# Altium schematic symbol library Mark_Library.SchLib: 467 symbols (part 1 of 4)
Pins are listed as number, name and electrical type; pins without a type are passive.

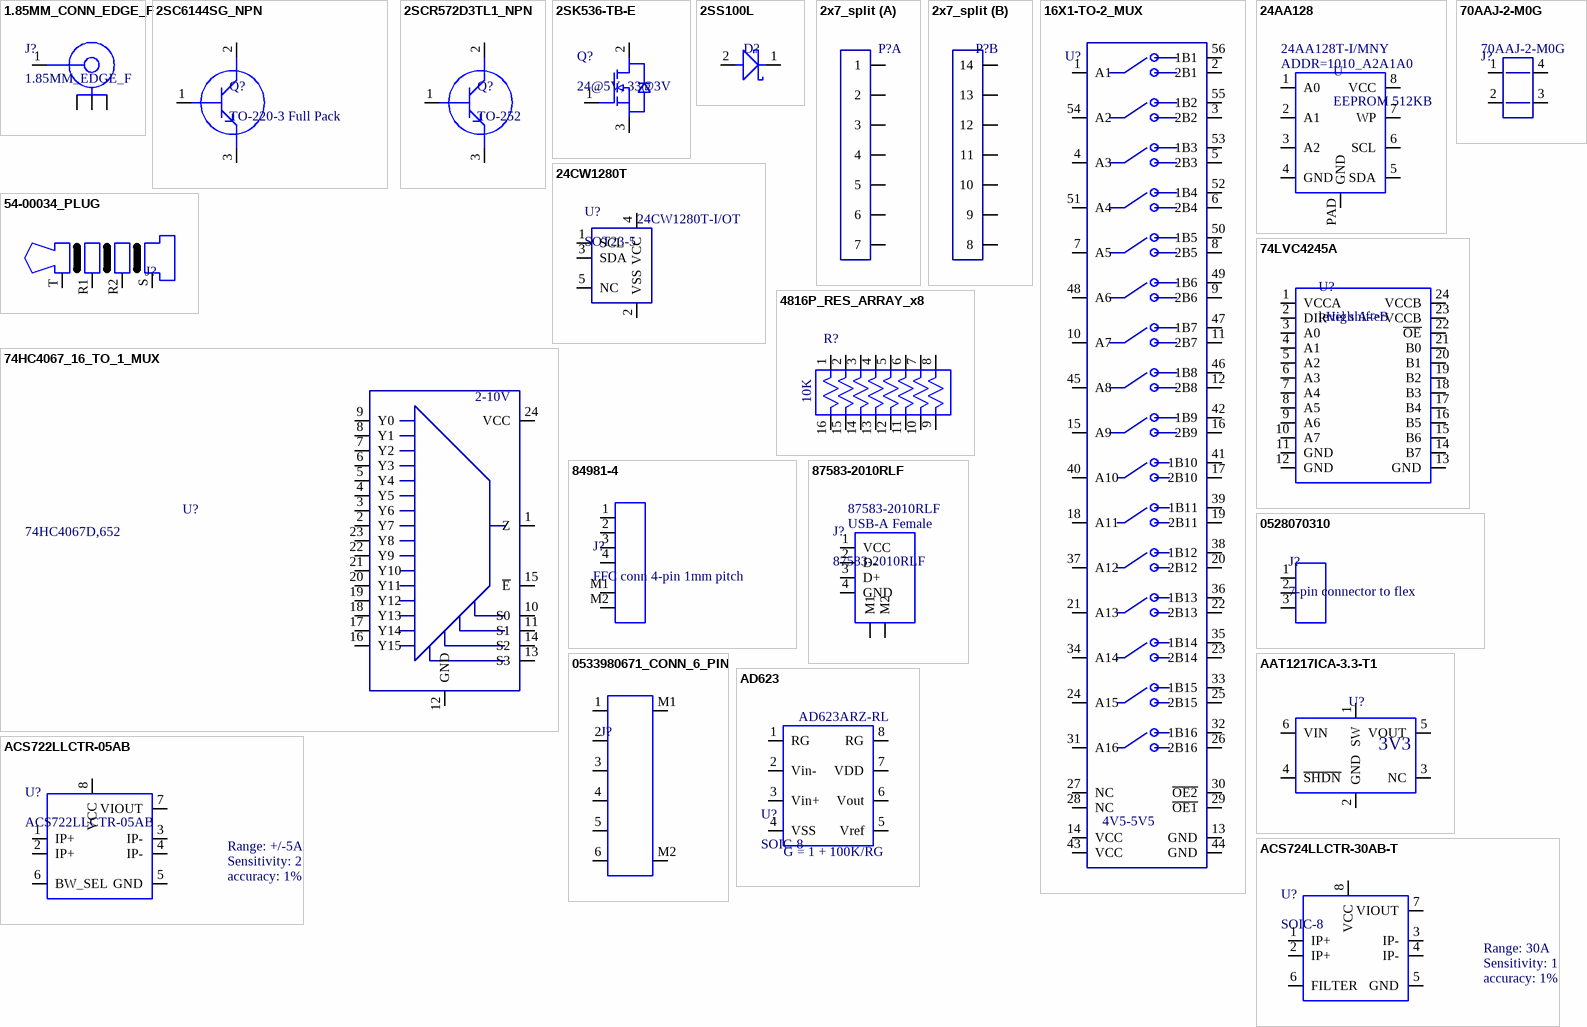
[diagram p0: symbols 1.85MM_CONN_EDGE_F to AD623]

## 1.85MM_CONN_EDGE_F
designator J?, comment 1.85MM_EDGE_F
Manufacturer: Amphenol; MfgPartNumber: 3321-60001; DigikeyPartNumber: 3321-60001-ND
footprint 1.85MM_EDGE (CONN 1.85MM JCK STR 50OHM EDGEMT)
pins: 1, M1, M2, M3

## 2SC6144SG_NPN
designator Q?, comment TO-220-3 Full Pack
Bipolar (BJT) Transistor NPN 50V 10A 330MHz 25W Through Hole TO-220F-3FS; Manufacturer: ON Semiconductor; MfgPartNumber: 2SC6144SG; DigikeyPartNumber: 2SC6144SGOS-ND
footprint TO-220F-3FS (thru-hole BJT)
pins: 1 B, 2 C, 3 E

## 2SCR572D3TL1_NPN
designator Q?, comment TO-252
Bipolar (BJT) Transistor NPN 30V 5A 300MHz 10W Surface Mount TO-252; Manufacturer: Rohm Semiconductor; MfgPartNumber: 2SCR572D3TL1; DigikeyPartNumber: 2SCR572D3TL1DKR-ND
footprint TO-252-3 (3-pin SMD)
pins: 1 B, 2 C, 3 E

## 2SK536-TB-E
designator Q?, comment 24@5V, 33@3V
MOSFET N-CH 50V 0.1A; Manufacturer: ON Semiconductor; MfgPartNumber: 2SK536-TB-E; Ron: 20 ohm @ 10mA,10V; DigikeyPartNumber: 2SK536-TB-EOSCT-ND; Vds max: 50V
footprint SC59-3 (alternative to SOT23-3)
pins: 1 G, 2 D, 3 S

## 2SS100L
designator D?  (value not drawn)
schottky diode; Manufacturer: Rectron; MfgPartNumber: 2SS100L
footprint SOD-123 (for Zener diodes)
pins: 1, 2

## 2x7_split
designator P?  (value not drawn)
powercast package
part A pins: 1, 2, 3, 4, 5, 6, 7
part B pins: 8, 9, 10, 11, 12, 13, 14

## 16X1-TO-2_MUX
designator U?
Assynchronous Multiplexer/Demultiplexer 16 x 1:2 56-TSSOP; MfgPartNumber: SN74CBT16390DGGR; Manufacturer: Texas Instruments; DigikeyPartNumber: 296-1163-1-ND
footprint TSSOP-56 (14 x 8.1mm body)
pins: 1 A1, 2 2B1, 3 2B2, 4 A3, 5 2B3, 6 2B4, 7 A5, 8 2B5, 9 2B6, 10 A7, 11 2B7, 12 2B8, 13 GND, 14 VCC, 15 A9, 16 2B9, 17 2B10, 18 A11, 19 2B11, 20 2B12, 21 A13, 22 2B13, 23 2B14, 24 A15, 25 2B15, 26 2B16, 27 NC, 28 NC, 29 ~{OE1}, 30 ~{OE2}, 31 A16, 32 1B16, 33 1B15, 34 A14, 35 1B14, 36 1B13, 37 A12, 38 1B12, 39 1B11, 40 A10, 41 1B10, 42 1B9, 43 VCC, 44 GND, 45 A8, 46 1B8, 47 1B7, 48 A6, 49 1B6, 50 1B5, 51 A4, 52 1B4, 53 1B3, 54 A2, 55 1B2, 56 1B1
text: 4V5-5V5

## 24AA128
designator U, comment EEPROM 512KB  MfgPartNumber: 24AA128T-I/MNY
EEPROM, 128Kb, I2C; Manufacturer: Microchip; DigikeyPartNumber: 24AA128T-I/MNYCT-ND
footprint UFDFN-8 (UFDFN 8 pins + exposed pad)
pins: 1 A0, 2 A1, 3 A2, 4 GND, 5 SDA, 6 SCL, 7 WP, 8 VCC, PAD GND
text: ADDR=1010_A2A1A0

## 24CW1280T
designator U?, comment SOT23-5  MfgPartNumber: 24CW1280T-I/OT
EEPROM Memory IC 128Kb (16K x 8) I²C 1MHz 450ns SOT-23-5; Manufacturer: Microchip Technology; DigikeyPartNumber: 24CW1280T-I/OTCT-ND
footprint SOT23-5
pins: 1 SCL, 2 VSS, 3 SDA, 4 VCC, 5 NC

## 54-00034_PLUG
designator J?  (value not drawn)
4-pin 3.5mm audio plug; Manufacturer: Tensility International Corp; MfgPartNumber: 54-00035; DigikeyPartNumber: 839-1239-ND
footprint 54-00035_PLUG (3.5mm 4-pin audio plug, male)
footprint 54-00035_PLUG_ROUND (3.5mm 4-pin audio plug, male, ROUND holes)
pins: R1, R2, S, T

## 70AAJ-2-M0G
designator J?
2 Position Spring Compression Contact, Male Connector Surface Mount; Manufacturer: Bourns; DigikeyPartNumber: 70AAJ-2-M0GCT-ND; MfgPartNumber: 70AAJ-2-M0G
footprint 70AAJ-2-M0G (battery contact for Bill's board)
pins: 1, 2, 3, 4

## 74HC4067_16_TO_1_MUX
designator U?, comment MfgPartNumber: 74HC4067D,652  (hidden comment: 16-to-1 mux)
IC MUX/DEMUX 1X16 24SOIC; Manufacturer: Nexperia; DigikeyPartNumber: 1727-3310-ND
footprint SOIC-24 (7.5x15.4mm SMD)
pins: 1 Z, 2 Y7, 3 Y6, 4 Y5, 5 Y4, 6 Y3, 7 Y2, 8 Y1, 9 Y0, 10 S0, 11 S1, 12 GND, 13 S3, 14 S2, 15 ~{E}, 16 Y15, 17 Y14, 18 Y13, 19 Y12, 20 Y11, 21 Y10, 22 Y9, 23 Y8, 24 VCC
text: 2-10V

## 74LVC4245A
designator U?, comment level shifter
IC TRANSCVR TRI-ST DL 24SOIC; MfgPartNumber: 74LVC4245AD,118; Manufacturer: Nexperia
footprint SO-24 (7.5-mm wide SMD)
pins: 1 VCCA, 2 DIR, 3 A0, 4 A1, 5 A2, 6 A3, 7 A4, 8 A5, 9 A6, 10 A7, 11 GND, 12 GND, 13 GND, 14 B7, 15 B6, 16 B5, 17 B4, 18 B3, 19 B2, 20 B1, 21 B0, 22 ~{OE}, 23 VCCB, 24 VCCB
text: High A->B

## 4816P_RES_ARRAY_x8
designator R?  value 10K  (hidden comment: 4816P_RES_ARRAY_x8)
RES ARRAY 8 RES 10K OHM 16SOIC; Manufacturer: Bourns; MfgPartNumber: lookup; DigikeyPartNumber: 4816P-1-103LFCT-ND
footprint SOIC-16
pins: 1, 2, 3, 4, 5, 6, 7, 8, 9, 10, 11, 12, 13, 14, 15, 16

## 84981-4
designator J?, comment FFC conn 4-pin 1mm pitch
footprint 84981-4 FFC conn (CONN FFC FPC TOP 4POS 1.00MM R/A)
pins: 1, 2, 3, 4, M1, M2

## 87583-2010RLF
designator J?
USB A female; Manufacturer: Amphenol; DigikeyPartNumber: 609-5390-1-ND; MfgPartNumber: 87583-2010RLF
footprint 87583-2010RLF (USB-A Female)
pins: 1 VCC, 2 D-, 3 D+, 4 GND, M1, M2
text: USB-A Female

## 0528070310
designator J?, comment 7-pin connector to flex
CONN FPC TOP 3POS 1.00MM R/A; Manufacturer: Molex; MfgPartNumber: 0528070310; DigikeyPartNumber: WM20332-ND
footprint FFC_528070310 (3-pin connector for 0.30mm FFC)
pins: 1, 2, 3

## 0533980671_CONN_6_PIN
designator J?  (value not drawn)
CONN HEADER 6POS 1.25MM VERT SMD; Manufacturer: Molex; DigikeyPartNumber: WM7610CT-ND; MfgPartNumber: 0533980671
footprint 0533980671 (CONN HEADER 6POS 1.25MM VERT SMD)
pins: 1, 2, 3, 4, 5, 6, M1, M2

## AAT1217ICA-3.3-T1
designator U?, comment .designator  (value not drawn)
IC REG BST 3.3V 0.5A SYNC TSOT23; MfgPartNumber: AAT1217ICA-3.3-T1; MfgPartNumber: Skyworks Solutions; DigikeyPartNumber: 863-1496-1-ND
footprint SOT23-6
pins: 1 SW, 2 GND, 3 NC, 4 ~{SHDN}, 5 VOUT, 6 VIN
text: 3V3

## ACS722LLCTR-05AB
designator U?  accuracy: 1%  Range: +/-5A  Sensitivity: 264mV/A
Manufacturer: Allegro Microsystems; MfgPartNumber: ACS722LLCTR-05AB; DigikeyPartNumber: 620-1634-1-ND
footprint SOIC-8
pins: 1 IP+, 2 IP+, 3 IP-, 4 IP-, 5 GND, 6 BW_SEL, 7 VIOUT, 8 VCC

## ACS724LLCTR-30AB-T
designator U?, comment SOIC-8  accuracy: 1%  Range: 30A  Sensitivity: 133mV/A
SENSOR CURRENT HALL 30A AC/DC; MfgPartNumber: ACS724LLCTR-30AB-T; Manufacturer: Allegro Microsystems; DigikeyPartNumber: 620-1722-1-ND
footprint SOIC-8
pins: 1 IP+, 2 IP+, 3 IP-, 4 IP-, 5 GND, 6 FILTER, 7 VIOUT, 8 VCC

## AD623
designator U?, comment SOIC-8  MfgPartNumber: AD623ARZ-RL
IC OPAMP INSTR 800KHZ RRO 8SOIC; Manufacturer: Analog Devices; DigikeyPartNumber: AD623ARZ-RLCT-ND
footprint SOIC-8
footprint VSSOP-8 (small outline package)
pins: 1 RG, 2 Vin-, 3 Vin+, 4 VSS, 5 Vref, 6 Vout, 7 VDD, 8 RG
text: G = 1 + 100K/RG

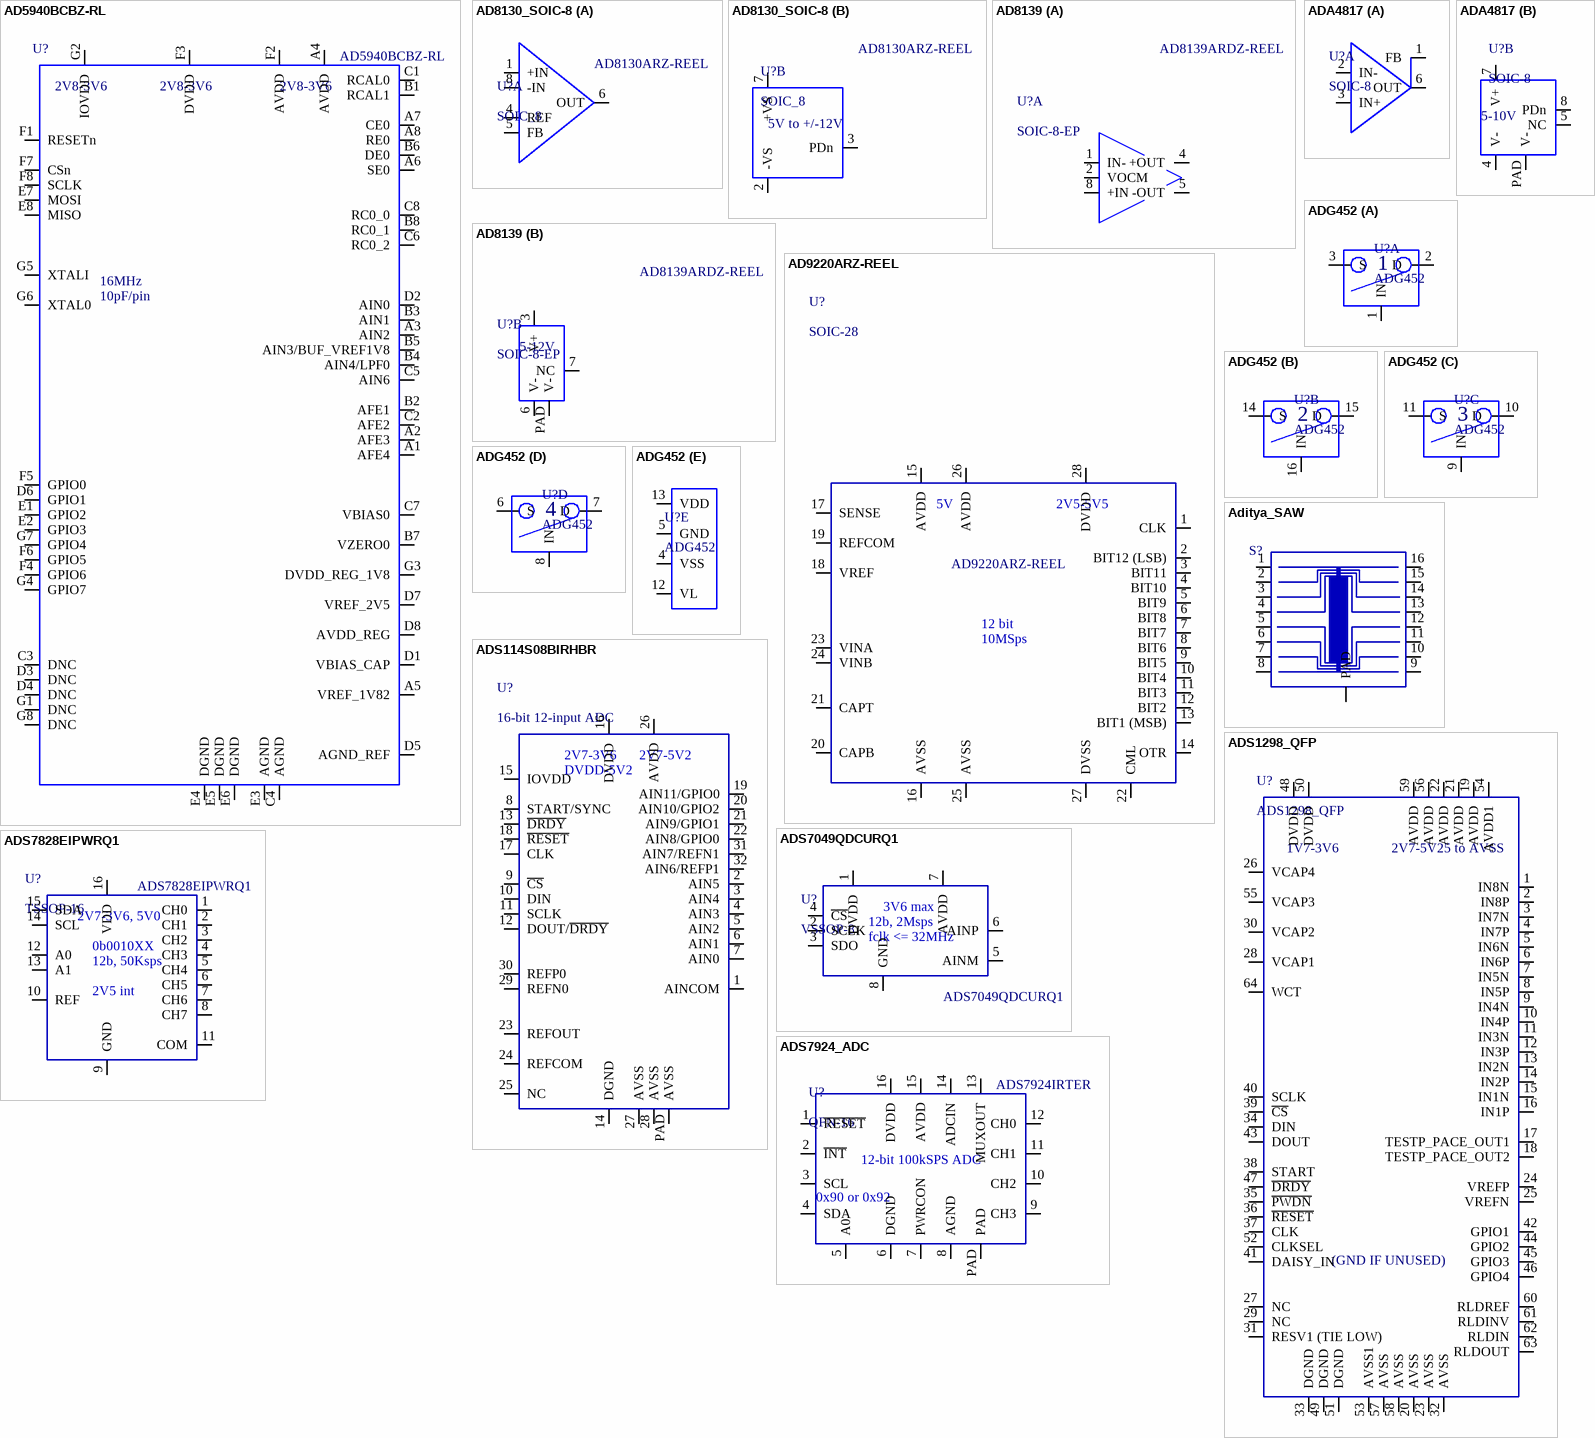
[diagram p1: symbols AD5940BCBZ-RL to ADS7924_ADC]

## AD5940BCBZ-RL
designator U?  MfgPartNumber: AD5940BCBZ-RL
BIO-IMPEDANCE & ELECTROCHEMICAL  AFE; Manufacturer: Analog Devices; DigikeyPartNumber: AD5940BCBZ-RLCT-ND
footprint WLCSP-56 (3.6x4.2x0.55mm 56-ball BGA)
pins: A1 AFE4, A2 AFE3, A3 AIN2, A4 AVDD, A5 VREF_1V82, A6 SE0, A7 CE0, A8 RE0, B1 RCAL1, B2 AFE1, B3 AIN1, B4 AIN4/LPF0, B5 AIN3/BUF_VREF1V8, B6 DE0, B7 VZERO0, B8 RC0_1, C1 RCAL0, C2 AFE2, C3 DNC, C4 AGND, C5 AIN6, C6 RC0_2, C7 VBIAS0, C8 RC0_0, D1 VBIAS_CAP, D2 AIN0, D3 DNC, D4 DNC, D5 AGND_REF, D6 GPIO1, D7 VREF_2V5, D8 AVDD_REG, E1 GPIO2, E2 GPIO3, E3 AGND, E4 DGND, E5 DGND, E6 DGND, E7 MOSI, E8 MISO, F1 RESETn, F2 AVDD, F3 DVDD, F4 GPIO6, F5 GPIO0, F6 GPIO5, F7 CSn, F8 SCLK, G1 DNC, G2 IOVDD, G3 DVDD_REG_1V8, G4 GPIO7, G5 XTALI, G6 XTAL0, G7 GPIO4, G8 DNC
text: 2V8-3V6; 16MHz; 10pF/pin

## AD8130_SOIC-8
designator U?, comment SOIC_8  MfgPartNumber: AD8130ARZ-REEL
Differential Amplifier 1 Circuit  8-SOIC; Manufacturer: Analog Devices; DigikeyPartNumber: AD8130ARZ-REELCT-ND
footprint SOIC-8
part A pins: 1 +IN, 4 REF, 5 FB, 6 OUT, 8 -IN
part B pins: 2 -VS, 3 PDn, 7 +VS
part B text: 5V to +/-12V

## AD8139
designator U?, comment SOIC-8-EP  MfgPartNumber: AD8139ARDZ-REEL
Differential Amplifier 1 Circuit Differential, Rail-to-Rail 8-SOIC-EP; Manufacturer: Analog Devices; DigikeyPartNumber: AD8139ARDZ-REELCT-ND
footprint SOIC-8_PAD (Standard SOIC_8 + power pad)
part A pins: 1 IN-, 2 VOCM, 4 +OUT, 5 -OUT, 8 +IN
part B pins: 3 V+, 6 V-, 7 NC, PAD V-
part B text: 5-12V

## AD9220ARZ-REEL
designator U?, comment SOIC-28  MfgPartNumber: AD9220ARZ-REEL
12 Bit Analog to Digital Converter 1 Input 1 Pipelined 28-SOIC; Manufacturer: Analog Devices; DigikeyPartNumber: AD9220ARZ-REELCT-ND
footprint SOIC-28 (7.5x18mm SMD)
pins: 1 CLK, 2 BIT12 (LSB), 3 BIT11, 4 BIT10, 5 BIT9, 6 BIT8, 7 BIT7, 8 BIT6, 9 BIT5, 10 BIT4, 11 BIT3, 12 BIT2, 13 BIT1 (MSB), 14 OTR, 15 AVDD, 16 AVSS, 17 SENSE, 18 VREF, 19 REFCOM, 20 CAPB, 21 CAPT, 22 CML, 23 VINA, 24 VINB, 25 AVSS, 26 AVDD, 27 DVSS, 28 DVDD
text: 5V; 2V5-5V5; 12 bit; 10MSps

## ADA4817
designator U?, comment SOIC-8
IC OPAMP VFB 1 CIRCUIT 8SOIC; MfgPartNumber: ADA4817-1ARDZ-R7; Manufacturer: Analog Devices; DigikeyPartNumber: ADA4817-1ARDZ-R7CT-ND
footprint SOIC-8_PAD (Standard SOIC_8 + power pad)
part A pins: 1 FB, 2 IN-, 3 IN+, 6 OUT
part B pins: 4 V-, 5 NC, 7 V+, 8 PDn, PAD V-
part B text: 5-10V

## ADG452
designator U?
5ohm Ron SPST x4
part A pins: 1 IN, 2 D, 3 S
part B pins: 14 S, 15 D, 16 IN
part C pins: 9 IN, 10 D, 11 S
part D pins: 6 S, 7 D, 8 IN
part E pins: 4 VSS, 5 GND, 12 VL, 13 VDD

## Aditya_SAW
designator S?  (value not drawn)
10x10 mm photoacoustic saw device for Aditya Vasan
footprint Aditya_SAW (16-pad die for Aditya Vasan)
pins: 1, 2, 3, 4, 5, 6, 7, 8, 9, 10, 11, 12, 13, 14, 15, 16, PAD

## ADS114S08BIRHBR
designator U?, comment 16-bit 12-input ADC
16 Bit Analog to Digital Converter 12 Input 1 Sigma-Delta 32-VQFN (5x5); MfgPartNumber: ADS114S08BIRHBR; Manufacturer: Texas Instruments; DigikeyPartNumber: 296-50880-1-ND
footprint VQFN-32_PAD (5x5x1mm SMD)
pins: 1 AINCOM, 2 AIN5, 3 AIN4, 4 AIN3, 5 AIN2, 6 AIN1, 7 AIN0, 8 START/SYNC, 9 ~{CS}, 10 DIN, 11 SCLK, 12 DOUT/~{DRDY}, 13 ~{DRDY}, 14 DGND, 15 IOVDD, 16 DVDD, 17 CLK, 18 ~{RESET}, 19 AIN11/GPIO0, 20 AIN10/GPIO2, 21 AIN9/GPIO1, 22 AIN8/GPIO0, 23 REFOUT, 24 REFCOM, 25 NC, 26 AVDD, 27 AVSS, 28 AVSS, 29 REFN0, 30 REFP0, 31 AIN7/REFN1, 32 AIN6/REFP1, PAD AVSS
text: 2V7-3V6; 2V7-5V2; DVDD-5V2

## ADS1298_QFP
designator U?
IC AFE 24BIT 32KSPS 8CH 64TQFP; MfgPartNumber: ADS1298IPAGR; Manufacturer: Texas Instruments; DigikeyPartNumber: 296-27734-ND
footprint TQFP-64 (64 pins QFP 10 x 10 x 1.2mm)
pins: 1 IN8N, 2 IN8P, 3 IN7N, 4 IN7P, 5 IN6N, 6 IN6P, 7 IN5N, 8 IN5P, 9 IN4N, 10 IN4P, 11 IN3N, 12 IN3P, 13 IN2N, 14 IN2P, 15 IN1N, 16 IN1P, 17 TESTP_PACE_OUT1, 18 TESTP_PACE_OUT2, 19 AVDD, 20 AVSS, 21 AVDD, 22 AVDD, 23 AVSS, 24 VREFP, 25 VREFN, 26 VCAP4, 27 NC, 28 VCAP1, 29 NC, 30 VCAP2, 31 RESV1 (TIE LOW), 32 AVSS, 33 DGND, 34 DIN, 35 ~{PWDN}, 36 ~{RESET}, 37 CLK, 38 START, 39 ~{CS}, 40 SCLK, 41 DAISY_IN, 42 GPIO1, 43 DOUT, 44 GPIO2, 45 GPIO3, 46 GPIO4, 47 ~{DRDY}, 48 DVDD, 49 DGND, 50 DVDD, 51 DGND, 52 CLKSEL, 53 AVSS1, 54 AVDD1, 55 VCAP3, 56 AVDD, 57 AVSS, 58 AVSS, 59 AVDD, 60 RLDREF, 61 RLDINV, 62 RLDIN, 63 RLDOUT, 64 WCT
text: 1V7-3V6; 2V7-5V25 to AVSS; (GND IF UNUSED)

## ADS7049QDCURQ1
designator U?, comment VSSOP-8  MfgPartNumber: ADS7049QDCURQ1
12 Bit Analog to Digital Converter 1 Input 1 SAR 8-VSSOP; Manufacturer: TI; DigikeyPartNumber: 296-45325-1-ND
footprint VSSOP-8_narrow (SMD 2x2mm 0.5mm pitch)
pins: 1 DVDD, 2 SCLK, 3 SDO, 4 ~{CS}, 5 AINM, 6 AINP, 7 AVDD, 8 GND
text: 3V6 max; 12b, 2Msps; fclk <= 32MHz

## ADS7828EIPWRQ1
designator U?, comment TSSOP-16  MfgPartNumber: ADS7828EIPWRQ1
IC ADC 12BIT SAR 16TSSOP; Manufacturer: TI; DigikeyPartNumber: 296-24101-1-ND
footprint TSSOP-16 (16-pin SMT)
pins: 1 CH0, 2 CH1, 3 CH2, 4 CH3, 5 CH4, 6 CH5, 7 CH6, 8 CH7, 9 GND, 10 REF, 11 COM, 12 A0, 13 A1, 14 SCL, 15 SDA, 16 VDD
text: 2V7-3V6, 5V0; 0b0010XX; 12b, 50Ksps; 2V5 int

## ADS7924_ADC
designator U?, comment QFN-16  MfgPartNumber: ADS7924IRTER
IC ADC 12BIT I2C 100KSPS 16WQFN; Manufacturer: Texas Instruments; DigikeyPartNumber: 296-27456-1-ND
footprint HXQFN-16_PAD (3x3x0.5mm QFN)
pins: 1 ~{RESET}, 2 ~{INT}, 3 SCL, 4 SDA, 5 A0, 6 DGND, 7 PWRCON, 8 AGND, 9 CH3, 10 CH2, 11 CH1, 12 CH0, 13 MUXOUT, 14 ADCIN, 15 AVDD, 16 DVDD, PAD
text: 12-bit 100kSPS ADC; 0x90 or 0x92

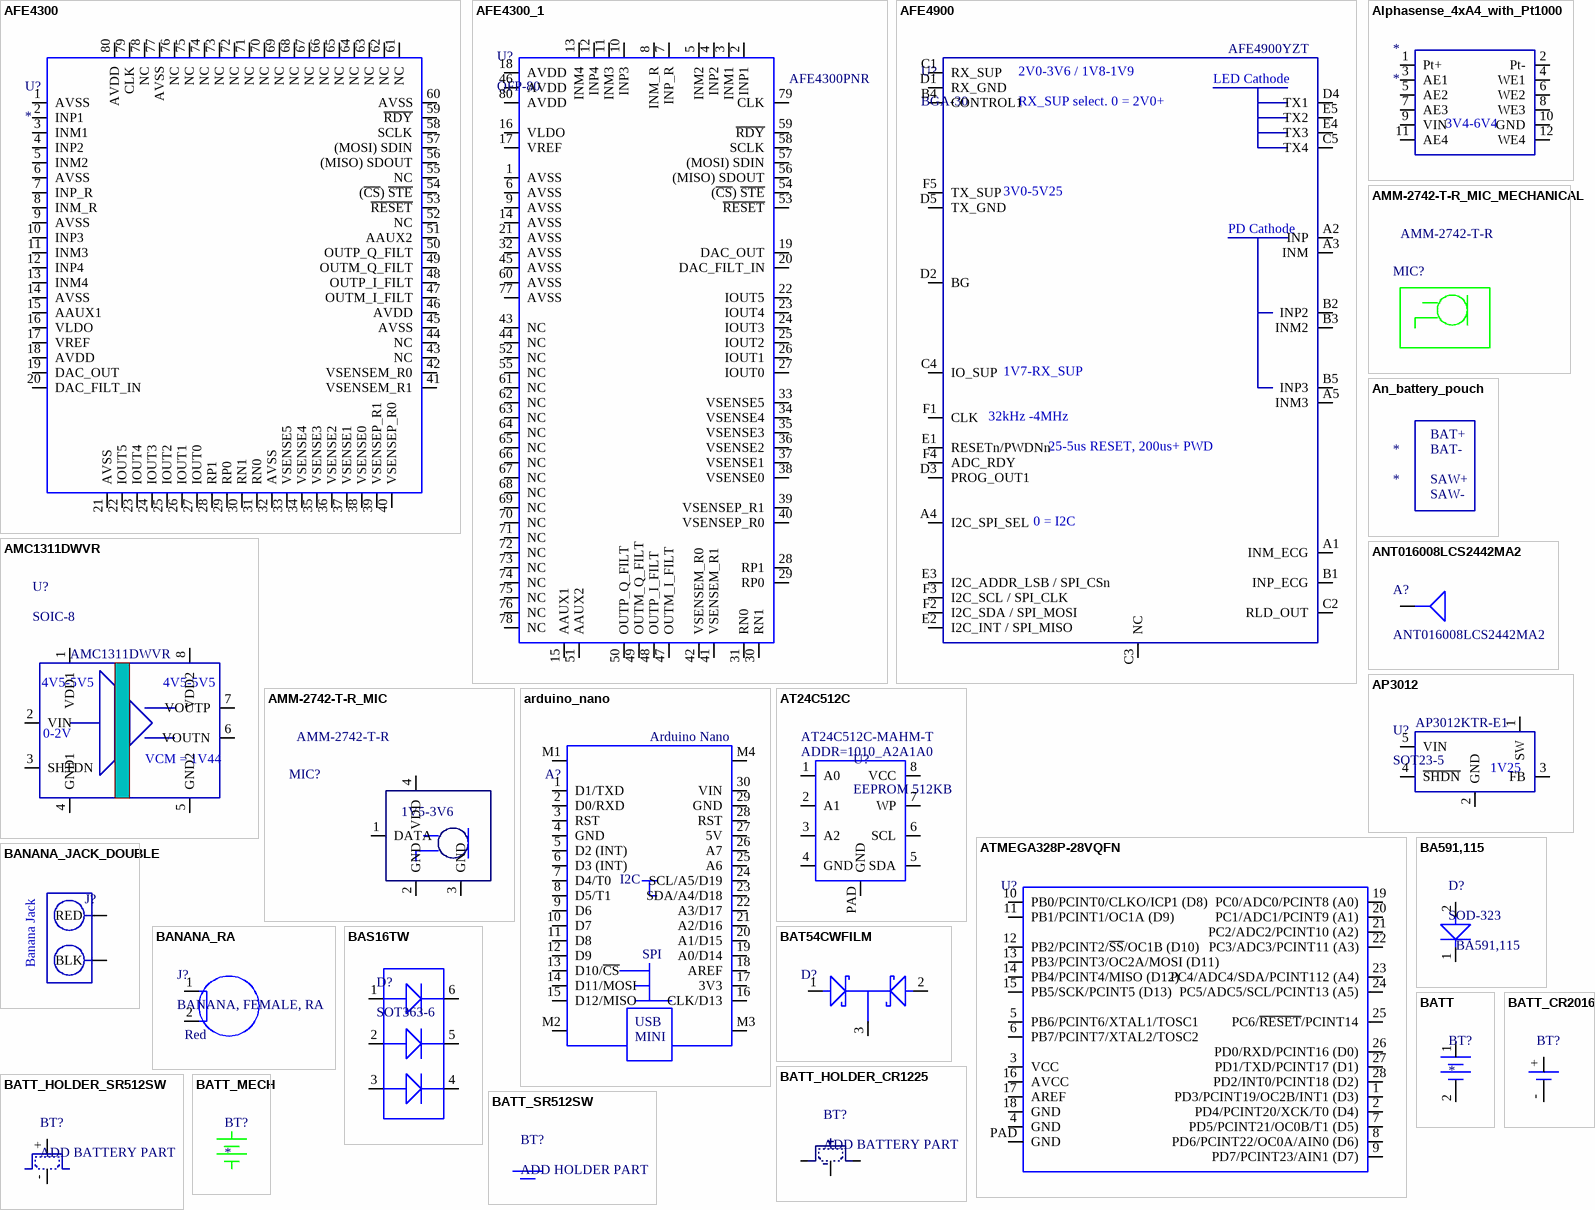
[diagram p2: symbols AFE4300 to BATT_SR512SW]

## AFE4300
designator U?
IC AFE 16BIT 860SPS 80LQFP; Manufacturer: Texas Instruments; MfgPartNumber: AFE4300PNR; DigikeyPartNumber: 296-30554-1-ND
footprint QFP-80 (12x12 mm square 80-pin quad flat pack 1.4mm tall)
pins: 1 AVSS, 2 INP1, 3 INM1, 4 INP2, 5 INM2, 6 AVSS, 7 INP_R, 8 INM_R, 9 AVSS, 10 INP3, 11 INM3, 12 INP4, 13 INM4, 14 AVSS, 15 AAUX1, 16 VLDO, 17 VREF, 18 AVDD, 19 DAC_OUT, 20 DAC_FILT_IN, 21 AVSS, 22 IOUT5, 23 IOUT4, 24 IOUT3, 25 IOUT2, 26 IOUT1, 27 IOUT0, 28 RP1, 29 RP0, 30 RN1, 31 RN0, 32 AVSS, 33 VSENSE5, 34 VSENSE4, 35 VSENSE3, 36 VSENSE2, 37 VSENSE1, 38 VSENSE0, 39 VSENSEP_R1, 40 VSENSEP_R0, 41 VSENSEM_R1, 42 VSENSEM_R0, 43 NC, 44 NC, 45 AVSS, 46 AVDD, 47 OUTM_I_FILT, 48 OUTP_I_FILT, 49 OUTM_Q_FILT, 50 OUTP_Q_FILT, 51 AAUX2, 52 NC, 53 ~{RESET}, 54 (~{CS}) ~{STE}, 55 NC, 56 (MISO) SDOUT, 57 (MOSI) SDIN, 58 SCLK, 59 ~{RDY}, 60 AVSS, 61 NC, 62 NC, 63 NC, 64 NC, 65 NC, 66 NC, 67 NC, 68 NC, 69 NC, 70 NC, 71 NC, 72 NC, 73 NC, 74 NC, 75 NC, 76 NC, 77 AVSS, 78 NC, 79 CLK, 80 AVDD

## AFE4300_1
designator U?  MfgPartNumber: AFE4300PNR
IC AFE 16BIT 860SPS 80LQFP; Manufacturer: Texas Instruments; DigikeyPartNumber: 296-30554-1-ND
footprint QFP-80 (12x12 mm square 80-pin quad flat pack 1.4mm tall)
pins: 1 AVSS, 2 INP1, 3 INM1, 4 INP2, 5 INM2, 6 AVSS, 7 INP_R, 8 INM_R, 9 AVSS, 10 INP3, 11 INM3, 12 INP4, 13 INM4, 14 AVSS, 15 AAUX1, 16 VLDO, 17 VREF, 18 AVDD, 19 DAC_OUT, 20 DAC_FILT_IN, 21 AVSS, 22 IOUT5, 23 IOUT4, 24 IOUT3, 25 IOUT2, 26 IOUT1, 27 IOUT0, 28 RP1, 29 RP0, 30 RN1, 31 RN0, 32 AVSS, 33 VSENSE5, 34 VSENSE4, 35 VSENSE3, 36 VSENSE2, 37 VSENSE1, 38 VSENSE0, 39 VSENSEP_R1, 40 VSENSEP_R0, 41 VSENSEM_R1, 42 VSENSEM_R0, 43 NC, 44 NC, 45 AVSS, 46 AVDD, 47 OUTM_I_FILT, 48 OUTP_I_FILT, 49 OUTM_Q_FILT, 50 OUTP_Q_FILT, 51 AAUX2, 52 NC, 53 ~{RESET}, 54 (~{CS}) ~{STE}, 55 NC, 56 (MISO) SDOUT, 57 (MOSI) SDIN, 58 SCLK, 59 ~{RDY}, 60 AVSS, 61 NC, 62 NC, 63 NC, 64 NC, 65 NC, 66 NC, 67 NC, 68 NC, 69 NC, 70 NC, 71 NC, 72 NC, 73 NC, 74 NC, 75 NC, 76 NC, 77 AVSS, 78 NC, 79 CLK, 80 AVDD

## AFE4900
designator U?, comment BGA-30  MfgPartNumber: AFE4900YZT
3 Channel AFE 24 Bit 30-DSBGA (2.6x2.1); Manufacturer: Texas Instruments; DigikeyPartNumber: 296-48891-1-ND
footprint BGA_30_2.1x2.6_MM (for AFE4900)
pins: A1 INM_ECG, A2 INP, A3 INM, A4 I2C_SPI_SEL, A5 INM3, B1 INP_ECG, B2 INP2, B3 INM2, B4 CONTROL1, B5 INP3, C1 RX_SUP, C2 RLD_OUT, C3 NC, C4 IO_SUP, C5 TX4, D1 RX_GND, D2 BG, D3 PROG_OUT1, D4 TX1, D5 TX_GND, E1 RESETn/PWDNn, E2 I2C_INT / SPI_MISO, E3 I2C_ADDR_LSB / SPI_CSn, E4 TX3, E5 TX2, F1 CLK, F2 I2C_SDA / SPI_MOSI, F3 I2C_SCL / SPI_CLK, F4 ADC_RDY, F5 TX_SUP
text: 2V0-3V6 / 1V8-1V9; LED Cathode; RX_SUP select. 0 = 2V0+; 3V0-5V25; PD Cathode; 1V7-RX_SUP; 32kHz -4MHz; 25-5us RESET, 200us+ PWD; 0 = I2C

## Alphasense_4xA4_with_Pt1000
designator *
footprint HEADER_6X2_2MM (12-pin 2mm header)
pins: 1 Pt+, 2 Pt-, 3 AE1, 4 WE1, 5 AE2, 6 WE2, 7 AE3, 8 WE3, 9 VIN, 10 GND, 11 AE4, 12 WE4
text: 3V4-6V4

## AMC1311DWVR
designator U?, comment SOIC-8  MfgPartNumber: AMC1311DWVR
IC ISOLATION ANALOG; Manufacturer: Texas Instruments; DigikeyPartNumber: 296-50939-1-ND
footprint SOIC-8_WIDE (7.5 x 6 x 2.8mm surface mount for analog isolator)
pins: 1 VDD1, 2 VIN, 3 SHTDN, 4 GND1, 5 GND2, 6 VOUTN, 7 VOUTP, 8 VDD2
text: 4V5-5V5; 0-2V; VCM = 1V44

## AMM-2742-T-R_MIC
designator MIC?  MfgPartNumber: AMM-2742-T-R
Manufacturer: PUI Audio; DigikeyPartNumber: 668-AMM-2742-T-RCT-ND
footprint AMM-2742-T-R (2.75x1.85x1mm SMT microphone)
pins: 1 DATA, 2 GND, 3 GND, 4 VDD
text: 1V5-3V6

## AMM-2742-T-R_MIC_MECHANICAL
designator MIC?  MfgPartNumber: AMM-2742-T-R  (mechanical)
Manufacturer: PUI Audio; DigikeyPartNumber: 668-AMM-2742-T-RCT-ND
footprint AMM-2742-T-R (2.75x1.85x1mm SMT microphone)

## An_battery_pouch
designator *
footprint An_pouch_cell (An pouch cell for carrier board)
text: BAT+; BAT-; SAW+; SAW-

## ANT016008LCS2442MA2
designator A?  MfgPartNumber: ANT016008LCS2442MA2  (hidden comment: *)
ANTENNA 2.4GHZ SMD; Manufacturer: TDK; DigikeyPartNumber: 445-172405CT-ND
footprint ANT016008LCS (1.6 x 0.8 x 0.4mm chip antenna)
pins: 4 FEED

## AP3012
designator U?, comment SOT23-5  MfgPartNumber: AP3012KTR-E1
IC REG BOOST ADJ 0.5A SOT25; Manufacturer: Diodes Incorporated; DigikeyPartNumber: AP3012KTR-E1DICT-ND
footprint SOT23-5
pins: 1 SW, 2 GND, 3 FB, 4 ~{SHDN}, 5 VIN
text: 1V25

## arduino_nano
designator A?, comment 2x 15x0.1in socket  (value not drawn)
ATmega328 Arduino Nano AVR® ATmega MCU 8-Bit AVR Embedded Evaluation Board; MfgPartNumber: A000005; Manufacturer: Arduino; DigikeyPartNumber: 1050-1001-ND
footprint ARDUINO_NANO (Headers to attach Arduino Nano)
pins: 1 D1/TXD, 2 D0/RXD, 3 RST, 4 GND, 5 D2 (INT), 6 D3 (INT), 7 D4/T0, 8 D5/T1, 9 D6, 10 D7, 11 D8, 12 D9, 13 D10/~{CS}, 14 D11/MOSI, 15 D12/MISO, 16 CLK/D13, 17 3V3, 18 AREF, 19 A0/D14, 20 A1/D15, 21 A2/D16, 22 A3/D17, 23 SDA/A4/D18, 24 SCL/A5/D19, 25 A6, 26 A7, 27 5V, 28 RST, 29 GND, 30 VIN, M1, M2, M3, M4
text: Arduino Nano; I2C; SPI; USB; MINI

## AT24C512C
designator U?, comment EEPROM 512KB  MfgPartNumber: AT24C512C-MAHM-T
EEPROM, 512KB, I2C; Manufacturer: Microchip; DigikeyPartNumber: AT24C512C-MAHM-TCT-ND
footprint UFDFN-8 (UFDFN 8 pins + exposed pad)
pins: 1 A0, 2 A1, 3 A2, 4 GND, 5 SDA, 6 SCL, 7 WP, 8 VCC, PAD GND
text: ADDR=1010_A2A1A0

## ATMEGA328P-28VQFN
designator U?, comment .designator  (value not drawn)
IC MCU 8BIT 32KB FLASH 28VQFN; Manufacturer: Microchip Technology; MfgPartNumber: ATMEGA328P-MMHR; DigikeyPartNumber: ATMEGA328P-MMHRCT-ND
footprint VQFN-28 (28 pin 4x4mm + powerpad)
pins: 1 PD3/PCINT19/OC2B/INT1 (D3), 2 PD4/PCINT20/XCK/T0 (D4), 3 VCC, 4 GND, 5 PB6/PCINT6/XTAL1/TOSC1, 6 PB7/PCINT7/XTAL2/TOSC2, 7 PD5/PCINT21/OC0B/T1 (D5), 8 PD6/PCINT22/OC0A/AIN0 (D6), 9 PD7/PCINT23/AIN1 (D7), 10 PB0/PCINT0/CLKO/ICP1 (D8), 11 PB1/PCINT1/OC1A (D9), 12 PB2/PCINT2/~{SS}/OC1B (D10), 13 PB3/PCINT3/OC2A/MOSI (D11), 14 PB4/PCINT4/MISO (D12), 15 PB5/SCK/PCINT5 (D13), 16 AVCC, 17 AREF, 18 GND, 19 PC0/ADC0/PCINT8 (A0), 20 PC1/ADC1/PCINT9 (A1), 21 PC2/ADC2/PCINT10 (A2), 22 PC3/ADC3/PCINT11 (A3), 23 PC4/ADC4/SDA/PCINT112 (A4), 24 PC5/ADC5/SCL/PCINT13 (A5), 25 PC6/~{RESET}/PCINT14, 26 PD0/RXD/PCINT16 (D0), 27 PD1/TXD/PCINT17 (D1), 28 PD2/INT0/PCINT18 (D2), PAD GND

## BA591,115
designator D?, comment SOD-323  MfgPartNumber: BA591,115
DIODE STANDARD 35V 500MW SOD323; Manufacturer: NXP; DigikeyPartNumber: 568-5992-1-ND
footprint SOD-323 (For CSU10S30,H3F schottky diode)
pins: 1 C, 2 A

## BANANA_JACK_DOUBLE
designator J?, comment Red & Black banana jacks  (value not drawn)
double banana jack, red and black; MfgPartNumber: BU-P2269; Manufacturer: Mueller; DigikeyPartNumber: 314-1204-ND
footprint BANANA_JACK_DOUBLE (for BU-P2269)
pins: BLK, RED
text: Banana Jack

## BANANA_RA
designator J?, comment BANANA, FEMALE, RA  Color: Red
CONN JACK TEST HORIZ INSUL; MfgPartNumber: 105-1102-001 , 105-1102-001; Manufacturer: Cinch Connectivity Solutions Johnson; DigikeyPartNumber: J576-ND , J577-ND
footprint BANANA_RA (For use with 105-1102-001, 105-1103-001)
pins: 1, 2

## BAS16TW
designator D?, comment SOT363-6
DIODE ARRAY GP 75V 150MA SOT363; Manufacturer: Diodes Incorporated; MfgPartNumber: BAS16TW-7-F; DigikeyPartNumber: BAS16TW-FDICT-ND
footprint SOT363-6 (6 pin 2.2 x 2.2 mm)
pins: 1 A1, 2 A2, 3 A3, 4 C3, 5 C2, 6 C1

## BAT54CWFILM
designator D?, comment SOT323-3  (value not drawn)
Diode Array 1 Pair Common Cathode Schottky 40V 300mA (DC) Surface Mount SC-70, SOT-323; Manufacturer: STMicroelectronics; MfgPartNumber: BAT54CWFILM; DigikeyPartNumber: 497-12749-1-ND
footprint SC70-3 (3 pin 2.3x3.2mm board area)
pins: 1, 2, 3

## BATT
designator BT?
generic battery symbol; CellSize: AA; CellQuantity: 3
footprint BAT_AA_X3 (Footprint not found)
footprint AAAA_batt_clip (Battery Clip AAAA SMT 36-50K-ND)
footprint BATT_CR1216
pins: 1, 2

## BATT_CR2016
designator BT?, comment CR2016  (value not drawn)
generic battery symbol; Manufacturer: MPD; MfgPartNumber: BK-5067; CellQuantity: 1; Voltage: 3V; CellSize: CR2016; DigikeyPartNumber: BK-5067-ND
footprint BK-5067 (for CR2016)
pins: +, -

## BATT_HOLDER_CR1225
designator BT?, comment ADD BATTERY PART
Battery Retainer Coin, 12.5mm x 2.5mm 1 Cell SMD (SMT) Tab 3V; Manufacturer: Harwin; MfgPartNumber: S8201-46R; CellSize: coin 12.5mm; CellQuantity: 1; Voltage: 3V0; DigikeyPartNumber: 952-1662-1-ND
footprint CR1225_RETAINER (for Harwin S8201-46R)
pins: +1 +, +2 +, -

## BATT_HOLDER_SR512SW
designator BT?, comment ADD BATTERY PART
Holder for 5.8x1.3mm 1.55V; Manufacturer: MPD; MfgPartNumber: BK-335-SM-TR; CellSize: coin 5.8mm; CellQuantity: 1; Voltage: 1V55; DigikeyPartNumber: BK-335-SM-CT-ND
footprint BK-335-SM (holder for 5.8x1.3mm battery. 1.55mm total)
pins: +, -

## BATT_MECH
designator BT?  (mechanical)
generic battery symbol; CellSize: AA; CellQuantity: 3
footprint BAT_AA_X3 (Footprint not found)
footprint AAAA_batt_clip (Battery Clip AAAA SMT 36-50K-ND)
footprint BATT_CR1216

## BATT_SR512SW
designator BT?, comment ADD HOLDER PART  (mechanical)
5.8x1.3mm 1.55V; Manufacturer: Seiko Instruments; MfgPartNumber: SR512SW; CellSize: coin 5.8mm; CellQuantity: 1; Voltage: 1V55; DigikeyPartNumber: 728-1089-ND

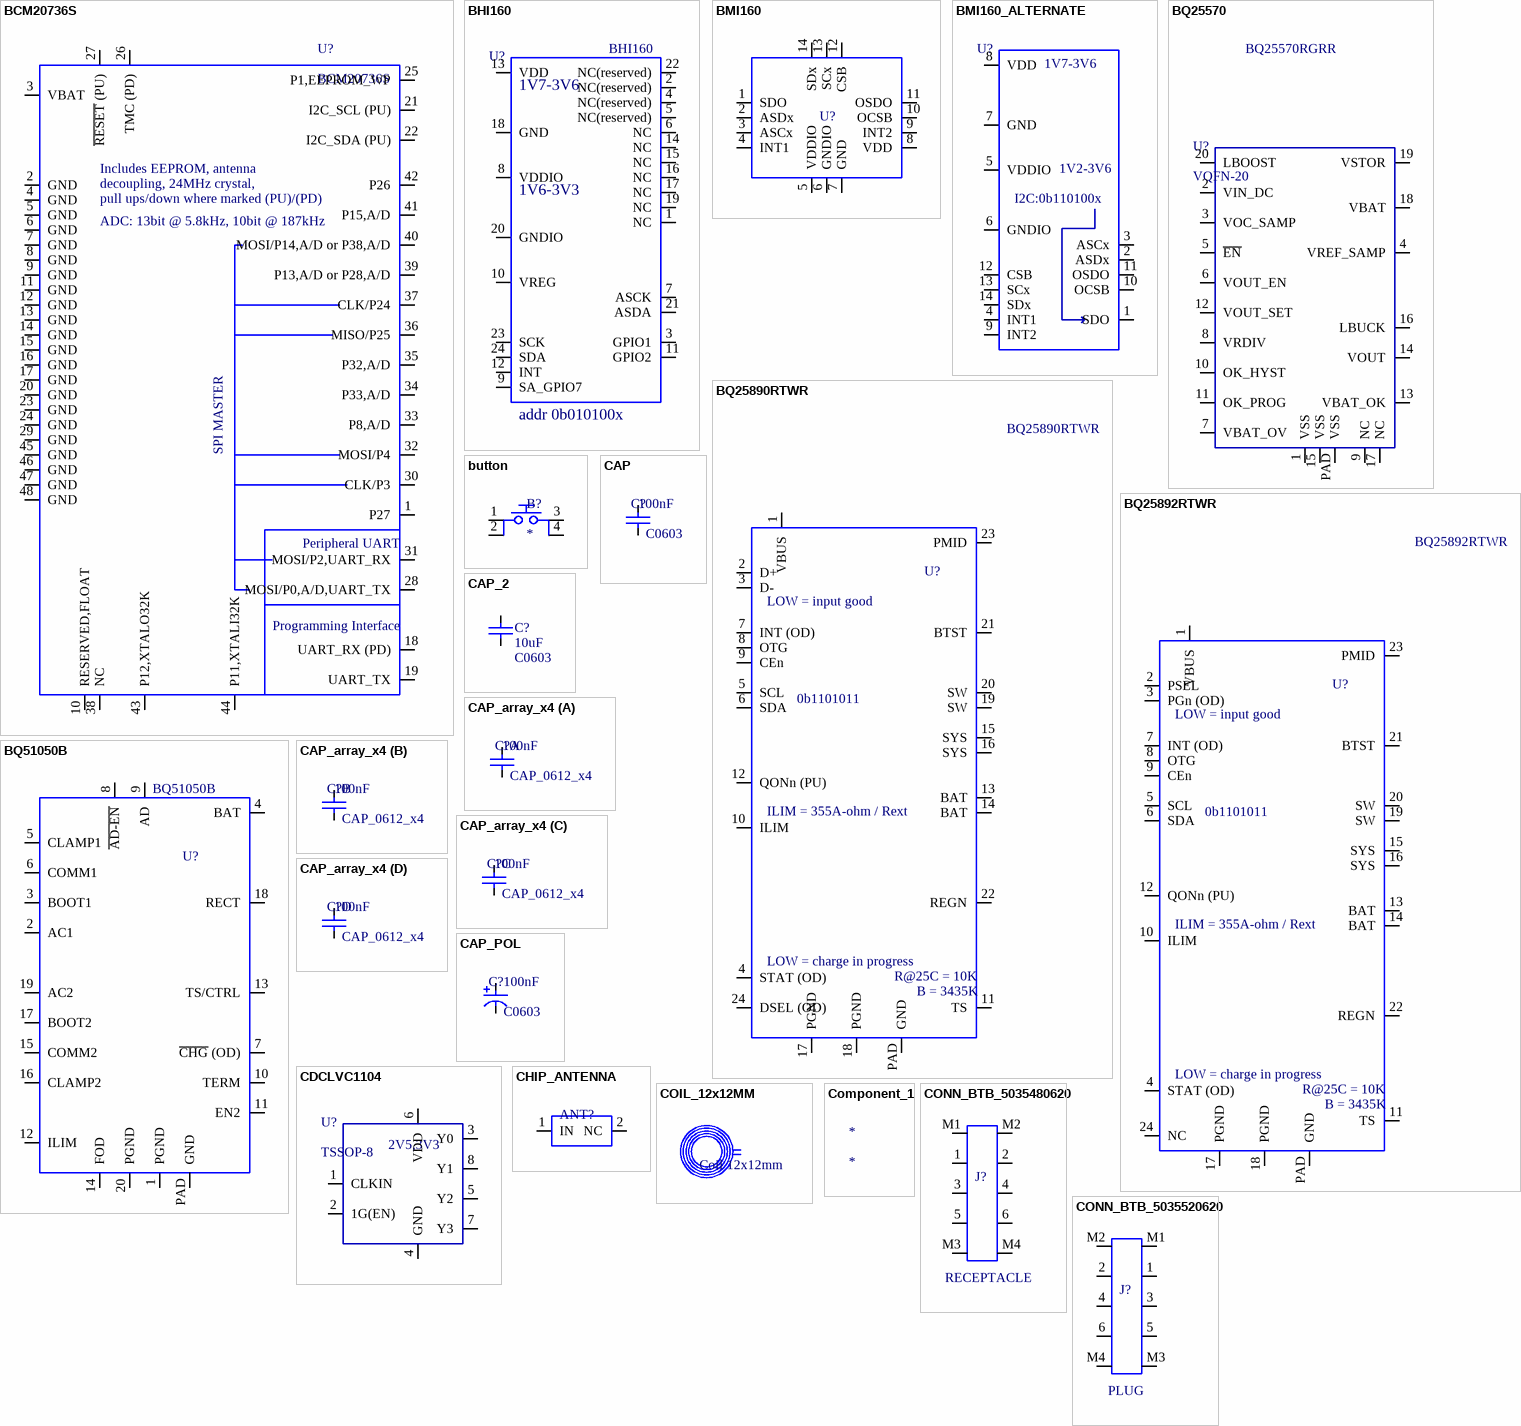
[diagram p3: symbols BCM20736S to CONN_BTB_5035520620]

## BCM20736S
designator U?
BLE/MCU system in module. Alias CYW20736S, ISM20736S; Manufacturer: Cypress; MfgPartNumber: BCM20736S; DigikeyPartNumber: 428-3656-ND
footprint LGA-48 (48-pad Land Grid Array for CYW20736S / BCM20736S)
footprint LGA-48_handsolder (48-pad Land Grid Array for CYW20736S / BCM20736S)
pins: 1 P27, 2 GND, 3 VBAT, 4 GND, 5 GND, 6 GND, 7 GND, 8 GND, 9 GND, 10 RESERVED,FLOAT, 11 GND, 12 GND, 13 GND, 14 GND, 15 GND, 16 GND, 17 GND, 18 UART_RX (PD), 19 UART_TX, 20 GND, 21 I2C_SCL (PU), 22 I2C_SDA (PU), 23 GND, 24 GND, 25 P1,EEPROM_WP, 26 TMC (PD), 27 ~{RESET} (PU), 28 MOSI/P0,A/D,UART_TX, 29 GND, 30 CLK/P3, 31 MOSI/P2,UART_RX, 32 MOSI/P4, 33 P8,A/D, 34 P33,A/D, 35 P32,A/D, 36 MISO/P25, 37 CLK/P24, 38 NC, 39 P13,A/D or P28,A/D, 40 MOSI/P14,A/D or P38,A/D, 41 P15,A/D, 42 P26, 43 P12,XTALO32K, 44 P11,XTALI32K, 45 GND, 46 GND, 47 GND, 48 GND
text: Includes EEPROM, antenna; decoupling, 24MHz crystal,; pull ups/down where marked (PU)/(PD); ADC: 13bit @ 5.8kHz, 10bit @ 187kHz; SPI MASTER; Peripheral UART; Programming Interface

## BHI160
designator U?
IMU ACCEL/GYRO 3-AXIS I2C 24LGA; Manufacturer: Bosch; DigikeyPartNumber: 828-1067-1-ND; MfgPartNumber: BHI160
footprint LGA-24 (3x3x1mm 24-pad for BHI160)
pins: 1 NC, 2 NC(reserved), 3 GPIO1, 4 NC(reserved), 5 NC(reserved), 6 NC, 7 ASCK, 8 VDDIO, 9 SA_GPIO7, 10 VREG, 11 GPIO2, 12 INT, 13 VDD, 14 NC, 15 NC, 16 NC, 17 NC, 18 GND, 19 NC, 20 GNDIO, 21 ASDA, 22 NC(reserved), 23 SCK, 24 SDA
text: 1V7-3V6; 1V6-3V3; addr 0b010100x

## BMI160
designator U?
IMU ACCEL/GYRO I2C/SPI 14LGA; MfgPartNumber: BMI160; Manufacturer: Bosch; DigikeyPartNumber: 828-1057-1-ND
footprint LGA-14 (for BMI160)
pins: 1 SDO, 2 ASDx, 3 ASCx, 4 INT1, 5 VDDIO, 6 GNDIO, 7 GND, 8 VDD, 9 INT2, 10 OCSB, 11 OSDO, 12 CSB, 13 SCx, 14 SDx

## BMI160_ALTERNATE
designator U?
IMU ACCEL/GYRO I2C/SPI 14LGA; MfgPartNumber: BMI160; Manufacturer: Bosch; DigikeyPartNumber: 828-1057-1-ND
footprint LGA-14 (for BMI160)
pins: 1 SDO, 2 ASDx, 3 ASCx, 4 INT1, 5 VDDIO, 6 GNDIO, 7 GND, 8 VDD, 9 INT2, 10 OCSB, 11 OSDO, 12 CSB, 13 SCx, 14 SDx
text: 1V7-3V6; 1V2-3V6; I2C:0b110100x

## BQ25570
designator U?, comment VQFN-20  MfgPartNumber: BQ25570RGRR
IC ENERGY HARV CTRLR BATT 20VQFN; Manufacturer: Texas Instruments; DigikeyPartNumber: 296-39934-1-ND
footprint VQFN-20_PAD_SQUARE (3.5x3.5x1mm)
pins: 1 VSS, 2 VIN_DC, 3 VOC_SAMP, 4 VREF_SAMP, 5 ~{EN}, 6 VOUT_EN, 7 VBAT_OV, 8 VRDIV, 9 NC, 10 OK_HYST, 11 OK_PROG, 12 VOUT_SET, 13 VBAT_OK, 14 VOUT, 15 VSS, 16 LBUCK, 17 NC, 18 VBAT, 19 VSTOR, 20 LBOOST, PAD VSS

## BQ25890RTWR
designator U?  MfgPartNumber: BQ25890RTWR
Charger IC Lithium Ion/Polymer 24-WQFN (4x4); Manufacturer: Texas Instruments; DigikeyPartNumber: 296-46074-1-ND
footprint VQFN-24_PAD (4x4x0.9mm)
pins: 1 VBUS, 2 D+, 3 D-, 4 STAT (OD), 5 SCL, 6 SDA, 7 INT (OD), 8 OTG, 9 CEn, 10 ILIM, 11 TS, 12 QONn (PU), 13 BAT, 14 BAT, 15 SYS, 16 SYS, 17 PGND, 18 PGND, 19 SW, 20 SW, 21 BTST, 22 REGN, 23 PMID, 24 DSEL (OD), PAD GND
text: LOW = input good; 0b1101011; ILIM = 355A-ohm / Rext; LOW = charge in progress; R@25C = 10K; B = 3435K

## BQ25892RTWR
designator U?  MfgPartNumber: BQ25892RTWR
Charger IC Lithium Ion/Polymer 24-WQFN (4x4); Manufacturer: Texas Instruments; DigikeyPartNumber: 296-46075-1-ND
footprint VQFN-24_PAD (4x4x0.9mm)
pins: 1 VBUS, 2 PSEL, 3 PGn (OD), 4 STAT (OD), 5 SCL, 6 SDA, 7 INT (OD), 8 OTG, 9 CEn, 10 ILIM, 11 TS, 12 QONn (PU), 13 BAT, 14 BAT, 15 SYS, 16 SYS, 17 PGND, 18 PGND, 19 SW, 20 SW, 21 BTST, 22 REGN, 23 PMID, 24 NC, PAD GND
text: LOW = input good; 0b1101011; ILIM = 355A-ohm / Rext; LOW = charge in progress; R@25C = 10K; B = 3435K

## BQ51050B
designator U?  MfgPartNumber: BQ51050B
Wireless charge controller for Li-ion/LiPo cells; Manufacturer: TI; DigikeyPartNumber: 296-35066-1-ND
footprint VQFN-20_PAD
pins: 1 PGND, 2 AC1, 3 BOOT1, 4 BAT, 5 CLAMP1, 6 COMM1, 7 ~{CHG} (OD), 8 ~{AD-EN}, 9 AD, 10 TERM, 11 EN2, 12 ILIM, 13 TS/CTRL, 14 FOD, 15 COMM2, 16 CLAMP2, 17 BOOT2, 18 RECT, 19 AC2, 20 PGND, PAD GND

## button
designator B?
Manufacturer: C&K; MfgPartNumber: PTS645SM43SMTR92 LFS; DigikeyPartNumber: CKN9112CT-ND
footprint SPST_button_6x6mm (tactile button, 6x6mm)
pins: 1, 2, 3, 4

## CAP
designator C?, comment 100nF
Nonpolarized capacitor; Manufacturer: Lookup; VoltageRating: 25V; DigikeyPartNumber: Lookup; MfgPartNumber: Lookup; Value: 100nF
footprint C0603 (Chip Capacitor; Body 1.6 x 0.8 mm (LxW typ))
footprint C1210 (Chip Capacitor; Body 3.2 x 2.5 mm (LxW typ))
footprint C0402
footprint C0201
footprint C0805 (surface mount cap 0805)
pins: 1, 2

## CAP_2
designator C?, comment value 10uF  (hidden comment: Capacitor)
Nonpolarized capacitor; Manufacturer: Murata; MfgPartNumber: GRM188R61A106ME69D; VoltageRating: 10V; DigikeyPartNumber: 490-10475-1-ND
footprint C_0603 (Chip Capacitor; Body 1.6 x 0.8 mm (LxW typ))
footprint C_1210 (Chip Capacitor; Body 3.2 x 2.5 mm (LxW typ))
footprint C0603
pins: 1, 2

## CAP_array_x4
designator C?, comment 100nF
Nonpolarized capacitor; Manufacturer: Lookup; VoltageRating: 16V; DigikeyPartNumber: Lookup; MfgPartNumber: Lookup; Value: 100nF
footprint CAP_0612_x4 (cap array 1.6 x 3.2 x 0.4mm)
part A pins: 1, 2
part B pins: 3, 4
part C pins: 5, 6
part D pins: 7, 8

## CAP_POL
designator C?, comment 100nF
Polarized capacitor; Manufacturer: Lookup; VoltageRating: 25V; DigikeyPartNumber: Lookup; MfgPartNumber: Lookup; Value: 100nF
footprint C0603 (Chip Capacitor; Body 1.6 x 0.8 mm (LxW typ))
footprint C1210 (Chip Capacitor; Body 3.2 x 2.5 mm (LxW typ))
footprint C0402
footprint C0201
footprint C7343 (7.3 x 4.3 x3.1mm Tantalum capacitor)
pins: +, -

## CDCLVC1104
designator U?, comment TSSOP-8
Clock Fanout Buffer (Distribution) IC 1:4 250MHz 8-TSSOP (0.173", 4.40mm Width); Manufacturer: Texas Instruments; MfgPartNumber: CDCLVC1104PWR; DigikeyPartNumber: 296-27549-1-ND
footprint TSSOP-8 (8-pin SMT)
pins: 1 CLKIN, 2 1G(EN), 3 Y0, 4 GND, 5 Y2, 6 VDD, 7 Y3, 8 Y1
text: 2V5,3V3

## CHIP_ANTENNA
designator ANT?, comment 2.4GHz  (value not drawn)
2.4GHz chip antenna for bluetooth; Manufacturer: Johanson Technology; MfgPartNumber: 2450AT42A100E; DigikeyPartNumber: 712-1007-1-ND
footprint CHIP_ANTENNA_M5020 (For Johanson 2450AT42A100 5.0 x 2.0 mm)
pins: 1 IN, 2 NC

## COIL_12x12MM
designator A?, comment Coil 12x12mm
wireless charging coil 12x12x1.1mm; Manufacturer: Abracon; MfgPartNumber: AWCCA-12R12H11-C01-B; DigikeyPartNumber: 535-13306-ND
footprint AWCCA-12R12H11-C01-B (RX 1 COIL 1 LAYER 8UH 12x12mm)

## Component_1
designator *

## CONN_BTB_5035480620
designator J?, comment 5035480620  (value not drawn)
CONN RCPT BTB 6POS DUAL VERT SMD; Manufacturer: Molex; DigikeyPartNumber: WM4639CT-ND; MfgPartNumber: 5035480620
footprint 5035480620_CONN_BTB (CONN RCPT BTB 6POS DUAL VERT SMD)
pins: 1, 2, 3, 4, 5, 6, M1, M2, M3, M4
text: RECEPTACLE

## CONN_BTB_5035520620
designator J?, comment 5035480620  (value not drawn)
CONN PLUG BTB 6POS DUAL VERT SMD; Manufacturer: Molex; MfgPartNumber: 5035520620; DigikeyPartNumber: WM4664CT-ND
footprint 5035520620_CONN_BTB (CONN PLUG BTB 6POS DUAL VERT SMD)
pins: 1, 2, 3, 4, 5, 6, M1, M2, M3, M4
text: PLUG

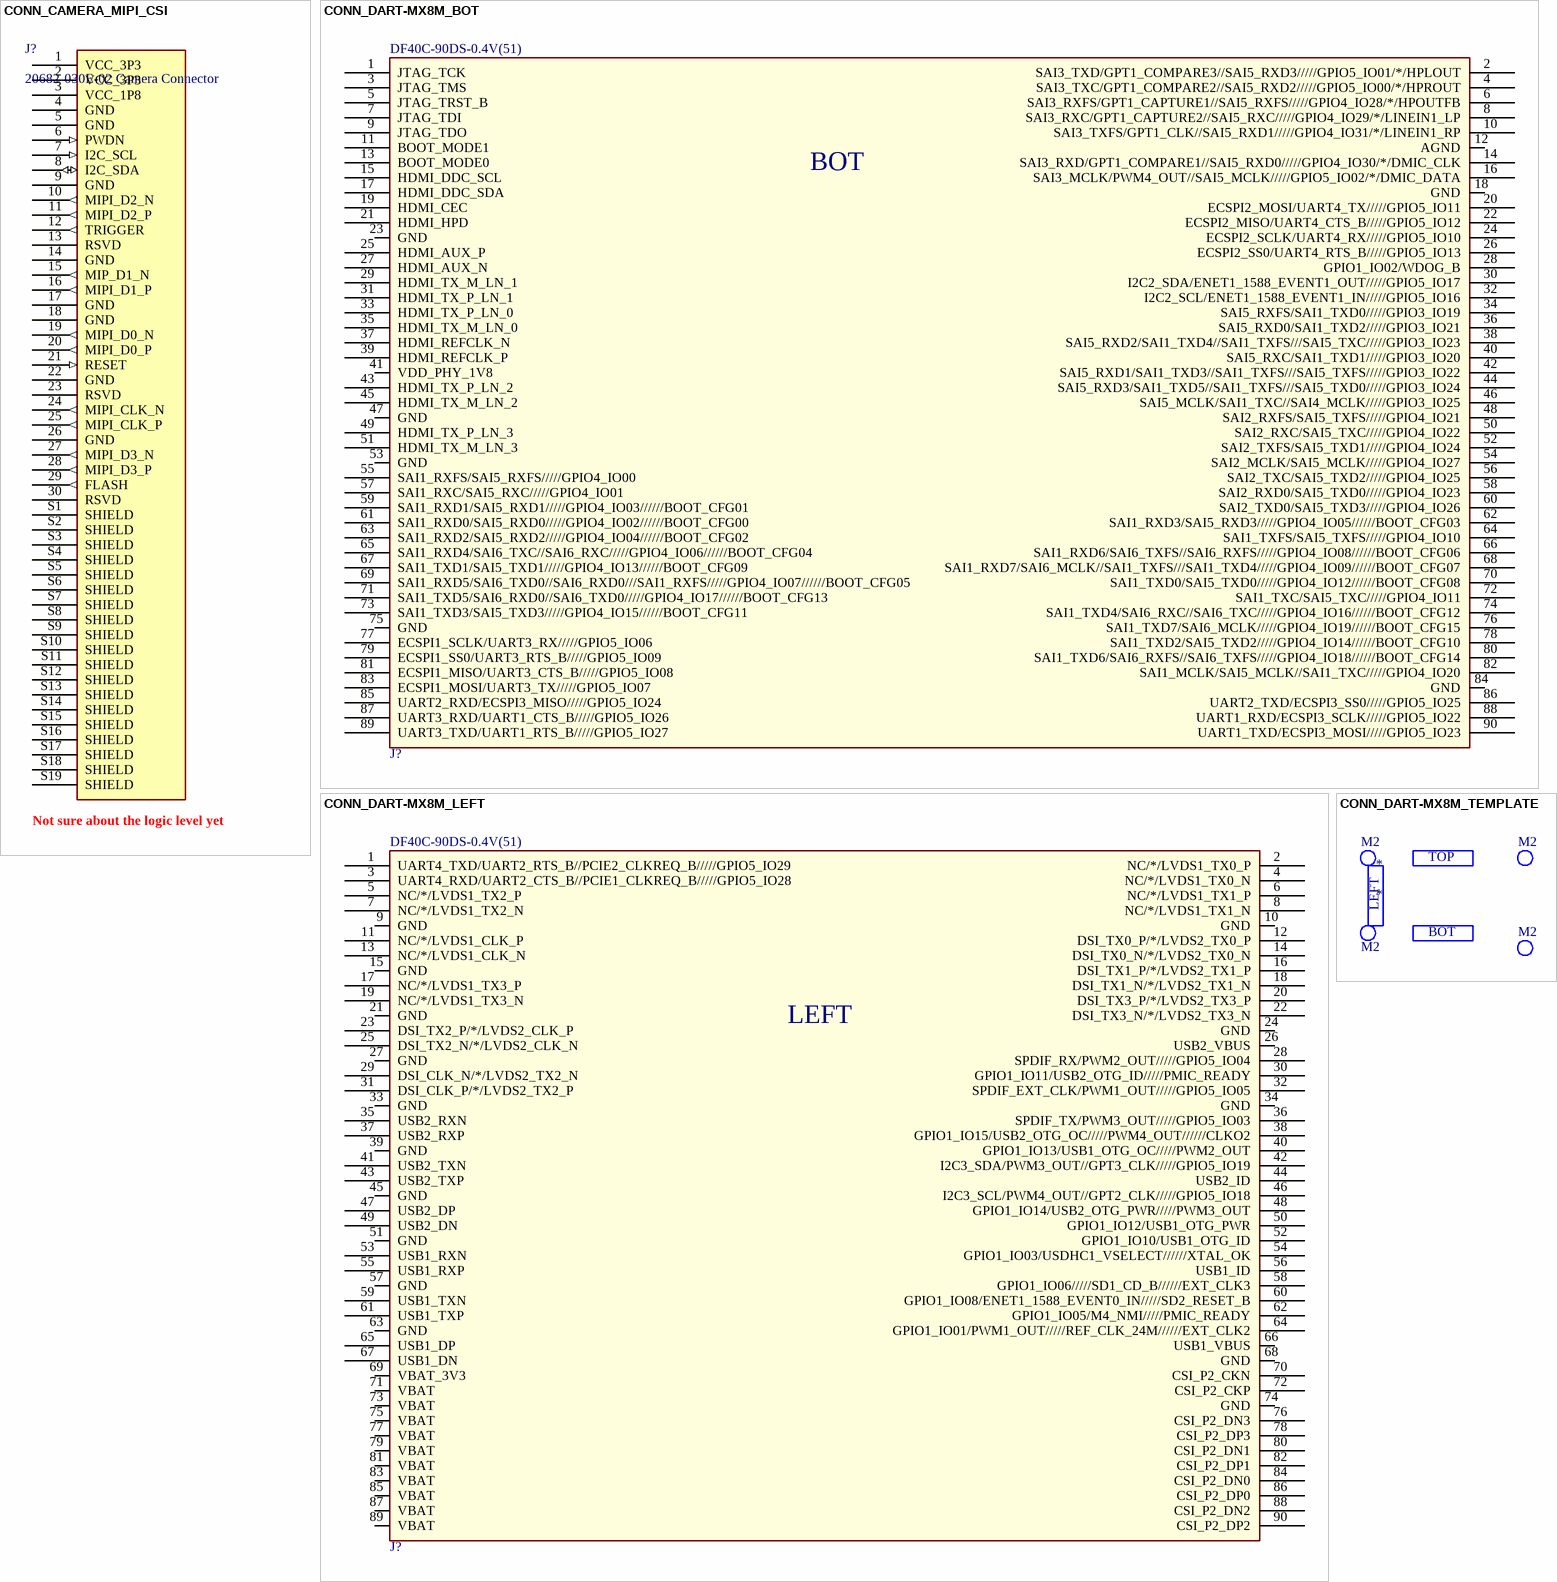
[diagram p4: symbols CONN_CAMERA_MIPI_CSI to CONN_DART-MX8M_TEMPLATE]

## CONN_CAMERA_MIPI_CSI
designator J?, comment 20682-030E-02 Camera Connector
0.4 mm pitch, Horizontal mating type Micro-coaxial connector with EMI shielding cover and mechanical lock; MF: I-PEX; Value: *; Package: None; Availability: Unavailable; Price: None; SnapEDA_Link: https://www.snapeda.com/parts/20682-030E-02/I-PEX/view-part/3220275/?ref=snap; MP: 20682-030E-02
footprint IPEX_20682-030E-02
pins: 1 VCC_3P3 (power) "3.3V Power supply", 2 VCC_3P3 (power) "3.3V Power supply", 3 VCC_1P8 (power) "1.8V Power supply", 4 GND (power) "Ground signal", 5 GND (power) "Ground signal", 6 PWDN (in) "Power down signal", 7 I2C_SCL (in) "I2C Clock signal", 8 I2C_SDA (io) "I2C Data Signal", 9 GND (power) "Ground signal", 10 MIPI_D2_N (out) "MIPI Data Lane 2 Differential Pair -", 11 MIPI_D2_P (out) "MIPI Data Lane 2 Differential Pair +", 12 TRIGGER (out) "Camera Trigger signal", 13 RSVD "Reserved", 14 GND (power) "Ground Signal", 15 MIP_D1_N (out) "MIPI Data Lane 1 Differential Pair -", 16 MIPI_D1_P (out) "MIPI Data Lane 1 Differential Pair +", 17 GND (power) "Ground signal", 18 GND (power) "Ground signal", 19 MIPI_D0_N (out) "MIPI Data Lane 0 Differential Pair -", 20 MIPI_D0_P (out) "MIPI Data Lane 0 Differential Pair +", 21 RESET (in) "Camera reset signal (Active low)", 22 GND (power) "Ground signal", 23 RSVD "Reserved", 24 MIPI_CLK_N (out) "MIPI Clock Lane Differnetial Pair -", 25 MIPI_CLK_P (out) "MIPI CLock Lane Differentail Pair +", 26 GND (power) "Ground signal", 27 MIPI_D3_N (out) "MIPI Data Lane 3 Differential Pair +", 28 MIPI_D3_P (out) "MIPI Data Lane 3 Differential Pair +", 29 FLASH (out) "Camera flash signal", 30 RSVD "Reserved", S1 SHIELD, S2 SHIELD, S3 SHIELD, S4 SHIELD, S5 SHIELD, S6 SHIELD, S7 SHIELD, S8 SHIELD, S9 SHIELD, S10 SHIELD, S11 SHIELD, S12 SHIELD, S13 SHIELD, S14 SHIELD, S15 SHIELD, S16 SHIELD, S17 SHIELD, S18 SHIELD, S19 SHIELD
text: Not sure about the logic level yet

## CONN_DART-MX8M_BOT
designator J?, comment Manufacurer_PN: DF40C-90DS-0.4V(51)  (hidden comment: DF40C-90DS-0_4V_51)
CONN HDR 90POS 0.4MM GOLD SMD; Manufacturer: Hirose Electric Co Ltd; digikeyPartNumber: H11877CT-ND
footprint DF40C-90DS-0.4V(51) (CONN RCPT 90POS SMD GOLD)
pins: 1 JTAG_TCK, 2 SAI3_TXD/GPT1_COMPARE3//SAI5_RXD3/////GPIO5_IO01/*/HPLOUT, 3 JTAG_TMS, 4 SAI3_TXC/GPT1_COMPARE2//SAI5_RXD2/////GPIO5_IO00/*/HPROUT, 5 JTAG_TRST_B, 6 SAI3_RXFS/GPT1_CAPTURE1//SAI5_RXFS/////GPIO4_IO28/*/HPOUTFB, 7 JTAG_TDI, 8 SAI3_RXC/GPT1_CAPTURE2//SAI5_RXC/////GPIO4_IO29/*/LINEIN1_LP, 9 JTAG_TDO, 10 SAI3_TXFS/GPT1_CLK//SAI5_RXD1/////GPIO4_IO31/*/LINEIN1_RP, 11 BOOT_MODE1, 12 AGND (power), 13 BOOT_MODE0, 14 SAI3_RXD/GPT1_COMPARE1//SAI5_RXD0/////GPIO4_IO30/*/DMIC_CLK, 15 HDMI_DDC_SCL, 16 SAI3_MCLK/PWM4_OUT//SAI5_MCLK/////GPIO5_IO02/*/DMIC_DATA, 17 HDMI_DDC_SDA, 18 GND (power), 19 HDMI_CEC, 20 ECSPI2_MOSI/UART4_TX/////GPIO5_IO11, 21 HDMI_HPD, 22 ECSPI2_MISO/UART4_CTS_B/////GPIO5_IO12, 23 GND (power), 24 ECSPI2_SCLK/UART4_RX/////GPIO5_IO10, 25 HDMI_AUX_P, 26 ECSPI2_SS0/UART4_RTS_B/////GPIO5_IO13, 27 HDMI_AUX_N, 28 GPIO1_IO02/WDOG_B, 29 HDMI_TX_M_LN_1, 30 I2C2_SDA/ENET1_1588_EVENT1_OUT/////GPIO5_IO17, 31 HDMI_TX_P_LN_1, 32 I2C2_SCL/ENET1_1588_EVENT1_IN/////GPIO5_IO16, 33 HDMI_TX_P_LN_0, 34 SAI5_RXFS/SAI1_TXD0/////GPIO3_IO19, 35 HDMI_TX_M_LN_0, 36 SAI5_RXD0/SAI1_TXD2/////GPIO3_IO21, 37 HDMI_REFCLK_N, 38 SAI5_RXD2/SAI1_TXD4//SAI1_TXFS///SAI5_TXC/////GPIO3_IO23, 39 HDMI_REFCLK_P, 40 SAI5_RXC/SAI1_TXD1/////GPIO3_IO20, 41 VDD_PHY_1V8 (power), 42 SAI5_RXD1/SAI1_TXD3//SAI1_TXFS///SAI5_TXFS/////GPIO3_IO22, 43 HDMI_TX_P_LN_2, 44 SAI5_RXD3/SAI1_TXD5//SAI1_TXFS///SAI5_TXD0/////GPIO3_IO24, 45 HDMI_TX_M_LN_2, 46 SAI5_MCLK/SAI1_TXC//SAI4_MCLK/////GPIO3_IO25, 47 GND (power), 48 SAI2_RXFS/SAI5_TXFS/////GPIO4_IO21, 49 HDMI_TX_P_LN_3, 50 SAI2_RXC/SAI5_TXC/////GPIO4_IO22, 51 HDMI_TX_M_LN_3, 52 SAI2_TXFS/SAI5_TXD1/////GPIO4_IO24, 53 GND (power), 54 SAI2_MCLK/SAI5_MCLK/////GPIO4_IO27, 55 SAI1_RXFS/SAI5_RXFS/////GPIO4_IO00, 56 SAI2_TXC/SAI5_TXD2/////GPIO4_IO25, 57 SAI1_RXC/SAI5_RXC/////GPIO4_IO01, 58 SAI2_RXD0/SAI5_TXD0/////GPIO4_IO23, 59 SAI1_RXD1/SAI5_RXD1/////GPIO4_IO03//////BOOT_CFG01, 60 SAI2_TXD0/SAI5_TXD3/////GPIO4_IO26, 61 SAI1_RXD0/SAI5_RXD0/////GPIO4_IO02//////BOOT_CFG00, 62 SAI1_RXD3/SAI5_RXD3/////GPIO4_IO05//////BOOT_CFG03, 63 SAI1_RXD2/SAI5_RXD2/////GPIO4_IO04//////BOOT_CFG02, 64 SAI1_TXFS/SAI5_TXFS/////GPIO4_IO10, 65 SAI1_RXD4/SAI6_TXC//SAI6_RXC/////GPIO4_IO06//////BOOT_CFG04, 66 SAI1_RXD6/SAI6_TXFS//SAI6_RXFS/////GPIO4_IO08//////BOOT_CFG06, 67 SAI1_TXD1/SAI5_TXD1/////GPIO4_IO13//////BOOT_CFG09, 68 SAI1_RXD7/SAI6_MCLK//SAI1_TXFS///SAI1_TXD4/////GPIO4_IO09//////BOOT_CFG07, 69 SAI1_RXD5/SAI6_TXD0//SAI6_RXD0///SAI1_RXFS/////GPIO4_IO07//////BOOT_CFG05, 70 SAI1_TXD0/SAI5_TXD0/////GPIO4_IO12//////BOOT_CFG08, 71 SAI1_TXD5/SAI6_RXD0//SAI6_TXD0/////GPIO4_IO17//////BOOT_CFG13, 72 SAI1_TXC/SAI5_TXC/////GPIO4_IO11, 73 SAI1_TXD3/SAI5_TXD3/////GPIO4_IO15//////BOOT_CFG11, 74 SAI1_TXD4/SAI6_RXC//SAI6_TXC/////GPIO4_IO16//////BOOT_CFG12, 75 GND (power), 76 SAI1_TXD7/SAI6_MCLK/////GPIO4_IO19//////BOOT_CFG15, 77 ECSPI1_SCLK/UART3_RX/////GPIO5_IO06, 78 SAI1_TXD2/SAI5_TXD2/////GPIO4_IO14//////BOOT_CFG10, 79 ECSPI1_SS0/UART3_RTS_B/////GPIO5_IO09, 80 SAI1_TXD6/SAI6_RXFS//SAI6_TXFS/////GPIO4_IO18//////BOOT_CFG14, 81 ECSPI1_MISO/UART3_CTS_B/////GPIO5_IO08, 82 SAI1_MCLK/SAI5_MCLK//SAI1_TXC/////GPIO4_IO20, 83 ECSPI1_MOSI/UART3_TX/////GPIO5_IO07, 84 GND (power), 85 UART2_RXD/ECSPI3_MISO/////GPIO5_IO24, 86 UART2_TXD/ECSPI3_SS0/////GPIO5_IO25, 87 UART3_RXD/UART1_CTS_B/////GPIO5_IO26, 88 UART1_RXD/ECSPI3_SCLK/////GPIO5_IO22, 89 UART3_TXD/UART1_RTS_B/////GPIO5_IO27, 90 UART1_TXD/ECSPI3_MOSI/////GPIO5_IO23
text: BOT

## CONN_DART-MX8M_LEFT
designator J?, comment Manufacturer_PN: DF40C-90DS-0.4V(51)  (hidden comment: DF40C-90DS-0_4V_51)
CONN HDR 90POS 0.4MM GOLD SMD; Manufacturer: Hirose Electric Co Ltd; DigikeyPartNumber: H11877CT-ND
footprint DF40C-90DS-0.4V(51) (CONN RCPT 90POS SMD GOLD)
pins: 1 UART4_TXD/UART2_RTS_B//PCIE2_CLKREQ_B/////GPIO5_IO29, 2 NC/*/LVDS1_TX0_P, 3 UART4_RXD/UART2_CTS_B//PCIE1_CLKREQ_B/////GPIO5_IO28, 4 NC/*/LVDS1_TX0_N, 5 NC/*/LVDS1_TX2_P, 6 NC/*/LVDS1_TX1_P, 7 NC/*/LVDS1_TX2_N, 8 NC/*/LVDS1_TX1_N, 9 GND (power), 10 GND (power), 11 NC/*/LVDS1_CLK_P, 12 DSI_TX0_P/*/LVDS2_TX0_P, 13 NC/*/LVDS1_CLK_N, 14 DSI_TX0_N/*/LVDS2_TX0_N, 15 GND (power), 16 DSI_TX1_P/*/LVDS2_TX1_P, 17 NC/*/LVDS1_TX3_P, 18 DSI_TX1_N/*/LVDS2_TX1_N, 19 NC/*/LVDS1_TX3_N, 20 DSI_TX3_P/*/LVDS2_TX3_P, 21 GND (power), 22 DSI_TX3_N/*/LVDS2_TX3_N, 23 DSI_TX2_P/*/LVDS2_CLK_P, 24 GND (power), 25 DSI_TX2_N/*/LVDS2_CLK_N, 26 USB2_VBUS (power), 27 GND (power), 28 SPDIF_RX/PWM2_OUT/////GPIO5_IO04, 29 DSI_CLK_N/*/LVDS2_TX2_N, 30 GPIO1_IO11/USB2_OTG_ID/////PMIC_READY, 31 DSI_CLK_P/*/LVDS2_TX2_P, 32 SPDIF_EXT_CLK/PWM1_OUT/////GPIO5_IO05, 33 GND (power), 34 GND (power), 35 USB2_RXN, 36 SPDIF_TX/PWM3_OUT/////GPIO5_IO03, 37 USB2_RXP, 38 GPIO1_IO15/USB2_OTG_OC/////PWM4_OUT//////CLKO2, 39 GND (power), 40 GPIO1_IO13/USB1_OTG_OC/////PWM2_OUT, 41 USB2_TXN, 42 I2C3_SDA/PWM3_OUT//GPT3_CLK/////GPIO5_IO19, 43 USB2_TXP, 44 USB2_ID, 45 GND (power), 46 I2C3_SCL/PWM4_OUT//GPT2_CLK/////GPIO5_IO18, 47 USB2_DP, 48 GPIO1_IO14/USB2_OTG_PWR/////PWM3_OUT, 49 USB2_DN, 50 GPIO1_IO12/USB1_OTG_PWR, 51 GND (power), 52 GPIO1_IO10/USB1_OTG_ID, 53 USB1_RXN, 54 GPIO1_IO03/USDHC1_VSELECT//////XTAL_OK, 55 USB1_RXP, 56 USB1_ID, 57 GND (power), 58 GPIO1_IO06/////SD1_CD_B//////EXT_CLK3, 59 USB1_TXN, 60 GPIO1_IO08/ENET1_1588_EVENT0_IN/////SD2_RESET_B, 61 USB1_TXP, 62 GPIO1_IO05/M4_NMI/////PMIC_READY, 63 GND (power), 64 GPIO1_IO01/PWM1_OUT/////REF_CLK_24M//////EXT_CLK2, 65 USB1_DP, 66 USB1_VBUS (power), 67 USB1_DN, 68 GND (power), 69 VBAT_3V3 (power), 70 CSI_P2_CKN, 71 VBAT (power), 72 CSI_P2_CKP, 73 VBAT (power), 74 GND (power), 75 VBAT (power), 76 CSI_P2_DN3, 77 VBAT (power), 78 CSI_P2_DP3, 79 VBAT (power), 80 CSI_P2_DN1, 81 VBAT (power), 82 CSI_P2_DP1, 83 VBAT (power), 84 CSI_P2_DN0, 85 VBAT (power), 86 CSI_P2_DP0, 87 VBAT (power), 88 CSI_P2_DN2, 89 VBAT (power), 90 CSI_P2_DP2
text: LEFT

## CONN_DART-MX8M_TEMPLATE
designator *  (no BOM)
no physical components. Simply a placement guide for 3x 90-pin conn + 4x M2 mtg holes
footprint DART_MX8M_template (For placing 3 connectors + 4 mounting holes)
text: M2; TOP; LEFT; BOT

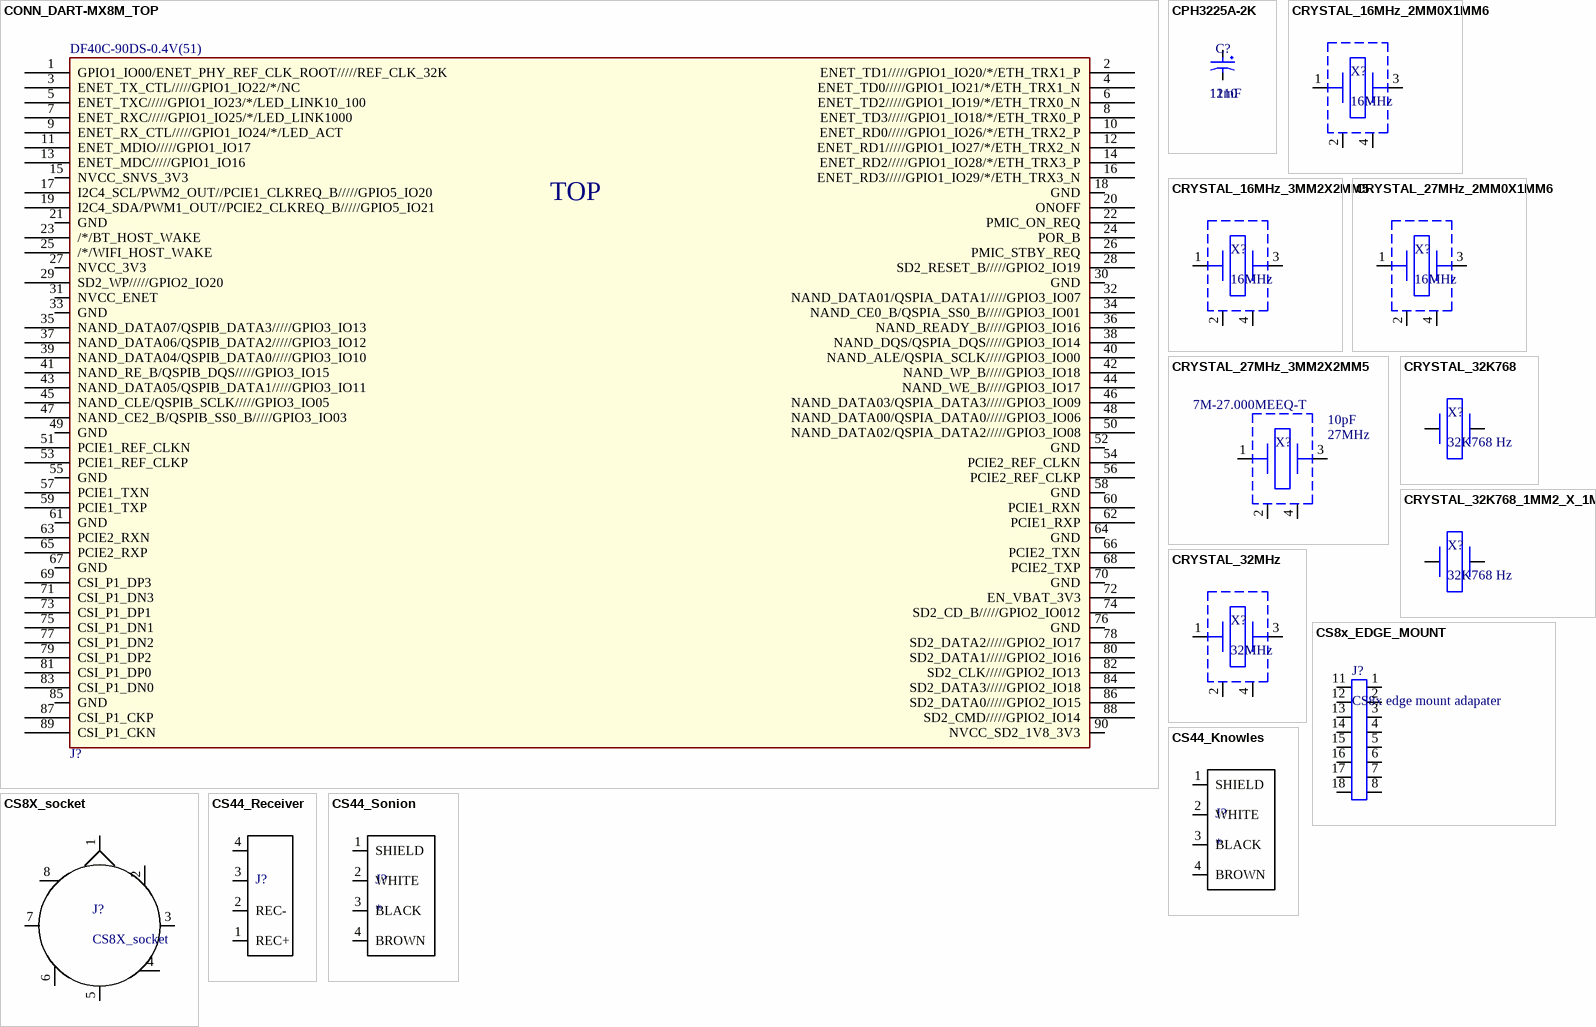
[diagram p5: symbols CONN_DART-MX8M_TOP to CS44_Sonion]

## CONN_DART-MX8M_TOP
designator J?, comment Manufacturer_PN: DF40C-90DS-0.4V(51)  (hidden comment: DF40C-90DS-0_4V_51)
CONN HDR 90POS 0.4MM GOLD SMD; Manufacturer: Hirose Electric Co Ltd; DigikeyPartNumber: H11877CT-ND
footprint DF40C-90DS-0.4V(51) (CONN RCPT 90POS SMD GOLD)
pins: 1 GPIO1_IO00/ENET_PHY_REF_CLK_ROOT/////REF_CLK_32K, 2 ENET_TD1/////GPIO1_IO20/*/ETH_TRX1_P, 3 ENET_TX_CTL/////GPIO1_IO22/*/NC, 4 ENET_TD0/////GPIO1_IO21/*/ETH_TRX1_N, 5 ENET_TXC/////GPIO1_IO23/*/LED_LINK10_100, 6 ENET_TD2/////GPIO1_IO19/*/ETH_TRX0_N, 7 ENET_RXC/////GPIO1_IO25/*/LED_LINK1000, 8 ENET_TD3/////GPIO1_IO18/*/ETH_TRX0_P, 9 ENET_RX_CTL/////GPIO1_IO24/*/LED_ACT, 10 ENET_RD0/////GPIO1_IO26/*/ETH_TRX2_P, 11 ENET_MDIO/////GPIO1_IO17, 12 ENET_RD1/////GPIO1_IO27/*/ETH_TRX2_N, 13 ENET_MDC/////GPIO1_IO16, 14 ENET_RD2/////GPIO1_IO28/*/ETH_TRX3_P, 15 NVCC_SNVS_3V3 (power), 16 ENET_RD3/////GPIO1_IO29/*/ETH_TRX3_N, 17 I2C4_SCL/PWM2_OUT//PCIE1_CLKREQ_B/////GPIO5_IO20, 18 GND (power), 19 I2C4_SDA/PWM1_OUT//PCIE2_CLKREQ_B/////GPIO5_IO21, 20 ONOFF, 21 GND (power), 22 PMIC_ON_REQ, 23 /*/BT_HOST_WAKE, 24 POR_B, 25 /*/WIFI_HOST_WAKE, 26 PMIC_STBY_REQ, 27 NVCC_3V3 (power), 28 SD2_RESET_B/////GPIO2_IO19, 29 SD2_WP/////GPIO2_IO20, 30 GND (power), 31 NVCC_ENET, 32 NAND_DATA01/QSPIA_DATA1/////GPIO3_IO07, 33 GND (power), 34 NAND_CE0_B/QSPIA_SS0_B/////GPIO3_IO01, 35 NAND_DATA07/QSPIB_DATA3/////GPIO3_IO13, 36 NAND_READY_B/////GPIO3_IO16, 37 NAND_DATA06/QSPIB_DATA2/////GPIO3_IO12, 38 NAND_DQS/QSPIA_DQS/////GPIO3_IO14, 39 NAND_DATA04/QSPIB_DATA0/////GPIO3_IO10, 40 NAND_ALE/QSPIA_SCLK/////GPIO3_IO00, 41 NAND_RE_B/QSPIB_DQS/////GPIO3_IO15, 42 NAND_WP_B/////GPIO3_IO18, 43 NAND_DATA05/QSPIB_DATA1/////GPIO3_IO11, 44 NAND_WE_B/////GPIO3_IO17, 45 NAND_CLE/QSPIB_SCLK/////GPIO3_IO05, 46 NAND_DATA03/QSPIA_DATA3/////GPIO3_IO09, 47 NAND_CE2_B/QSPIB_SS0_B/////GPIO3_IO03, 48 NAND_DATA00/QSPIA_DATA0/////GPIO3_IO06, 49 GND (power), 50 NAND_DATA02/QSPIA_DATA2/////GPIO3_IO08, 51 PCIE1_REF_CLKN, 52 GND (power), 53 PCIE1_REF_CLKP, 54 PCIE2_REF_CLKN, 55 GND (power), 56 PCIE2_REF_CLKP, 57 PCIE1_TXN, 58 GND (power), 59 PCIE1_TXP, 60 PCIE1_RXN, 61 GND (power), 62 PCIE1_RXP, 63 PCIE2_RXN, 64 GND (power), 65 PCIE2_RXP, 66 PCIE2_TXN, 67 GND (power), 68 PCIE2_TXP, 69 CSI_P1_DP3, 70 GND (power), 71 CSI_P1_DN3, 72 EN_VBAT_3V3, 73 CSI_P1_DP1, 74 SD2_CD_B/////GPIO2_IO012, 75 CSI_P1_DN1, 76 GND (power), 77 CSI_P1_DN2, 78 SD2_DATA2/////GPIO2_IO17, 79 CSI_P1_DP2, 80 SD2_DATA1/////GPIO2_IO16, 81 CSI_P1_DP0, 82 SD2_CLK/////GPIO2_IO13, 83 CSI_P1_DN0, 84 SD2_DATA3/////GPIO2_IO18, 85 GND (power), 86 SD2_DATA0/////GPIO2_IO15, 87 CSI_P1_CKP, 88 SD2_CMD/////GPIO2_IO14, 89 CSI_P1_CKN, 90 NVCC_SD2_1V8_3V3 (power)
text: TOP

## CPH3225A-2K
designator C?  value 11mF  Package: 1210  (hidden comment: CPH3225A-2K)
11mF (EDLC) Supercapacitor 3.3V 1210 (3225 Metric); Manufacturer: Seiko Instruments; DigikeyPartNumber: 728-1067-1-ND; MfgPartNumber: CPH3225A-2K; VoltageRating: 3.3V
footprint CPH3225A-2K (11mF (EDLC) Supercapacitor 3.3V 1210 (3225 Metric))
pins: 1, 2

## CRYSTAL_16MHz_2MM0X1MM6
designator X?, comment 16MHz
16MHz ±10ppm Crystal 9pF 100 Ohms 2.0 x 1.6mm; Manufacturer: ECS; MfgPartNumber: ECS-160-9-37-CKM-TR; DigikeyPartNumber: XC2630CT-ND
footprint CRYSTAL_2MM0_X_1MM6 (2.0 x 1.6 x 0.5mm 4-pin crystal)
pins: 1, 2 GND, 3, 4 GND

## CRYSTAL_16MHz_3MM2X2MM5
designator X?, comment 16MHz
16MHz crystal 9pF 54ohm; Manufacturer: AVX/Kyocera; MfgPartNumber: CX3225SB16000E0FPZ25; DigikeyPartNumber: 478-4815-1-ND
footprint CRYSTAL_M2532 (2.5 x 3.2mm For Kyocera CX3225SB16000E0FPZ25)
pins: 1, 2 GND, 3, 4 GND

## CRYSTAL_27MHz_2MM0X1MM6
designator X?, comment 16MHz
27MHz ±10ppm Crystal 8pF 60 Ohms 4-SMD, No Lead; Manufacturer: ECS; MfgPartNumber: ECS-270-8-37CKM; DigikeyPartNumber: XC1546CT-ND
footprint CRYSTAL_2MM0_X_1MM6 (2.0 x 1.6 x 0.5mm 4-pin crystal)
pins: 1, 2 GND, 3, 4 GND

## CRYSTAL_27MHz_3MM2X2MM5
designator X?, comment MfgPartNumber: 7M-27.000MEEQ-T  LoadCapacitance: 10pF  (hidden comment: 27MHz)
27MHz ±10ppm Crystal 10pF 60 Ohms 4-SMD, No Lead; Manufacturer: TXC; DigikeyPartNumber: 887-1328-1-ND; frequency: 27MHz
footprint CRYSTAL_M2532 (2.5 x 3.2mm For Kyocera CX3225SB16000E0FPZ25)
pins: 1, 2 GND, 3, 4 GND

## CRYSTAL_32K768
designator X?, comment 32K768 Hz
32.768kHz crystal 9pF 50kohm; Manufacturer: EPSON; MfgPartNumber: FC-135R 32.7680KF-AC3; DigikeyPartNumber: SER4075CT-ND
footprint CRYSTAL_M1532 (For EPSOM FC-135R, 1.5 x 3.2mm)
pins: 1, 2

## CRYSTAL_32K768_1MM2_X_1MM0
designator X?, comment 32K768 Hz
32.768kHz ±20ppm Crystal 9pF 90 kOhms 2-SMD, No Lead; Manufacturer: ECS Inc.; MfgPartNumber: ECS-.327-9-1210-TR; DigikeyPartNumber: XC2283CT-ND
footprint CRYSTAL_1MM2_X_1MM0 (Crystal 1.2 x 1.0 x 0.35mm)
pins: 1, 2

## CRYSTAL_32MHz
designator X?, comment 32MHz
CRYSTAL 32.0000MHZ 8PF SMD; Manufacturer: Diodes Inc.; MfgPartNumber: US3200005Z; DigikeyPartNumber: US3200005ZCT-ND
footprint CRYSTAL_1MM6_X_1MM2 (1.6 x 1.2 x 0.35mm 4-pin crystal)
pins: 1, 2 GND, 3, 4 GND

## CS8x_EDGE_MOUNT
designator J?, comment CS8x edge mount adapater
edge mount adapter
footprint CS8x_EDGE_MOUNT_0MM6 (edge mount adapter for CS8x to 0.6mm board, 8 pins)
pins: 1, 2, 3, 4, 5, 6, 7, 8, 11, 12, 13, 14, 15, 16, 17, 18

## CS8X_socket
designator J?
8-pin connector, female, SMD; Manufacturer: Sonion; MfgPartNumber: CS8X socket
footprint CS8X_SOCKET
pins: 1, 2, 3, 4, 5, 6, 7, 8

## CS44_Knowles
designator J?
4-pin connector. Specify TH vs. SMD; Manufacturer: Knowles; MfgPartNumber: CS44
footprint CS44_SOCKET_TH
pins: 1 SHIELD, 2 WHITE, 3 BLACK, 4 BROWN

## CS44_Receiver
designator J?  (value not drawn)
4-pin connector.; Manufacturer: Knowles; MfgPartNumber: CS44
footprint CS44_SOCKET_TH
footprint CS44_SOCKET_TH - EDGE (Edge mounted CS44. Requires 0.6mm PCB thickness.)
pins: 1 REC+, 2 REC-, 3, 4

## CS44_Sonion
designator J?
4-pin connector. Specify TH vs. SMD; Manufacturer: Knowles; MfgPartNumber: CS44
footprint CS44_SOCKET_TH - EDGE - SONION (Edge mounted CS44. Requires 0.6mm PCB thickness. For SONION cables)
pins: 1 SHIELD, 2 WHITE, 3 BLACK, 4 BROWN

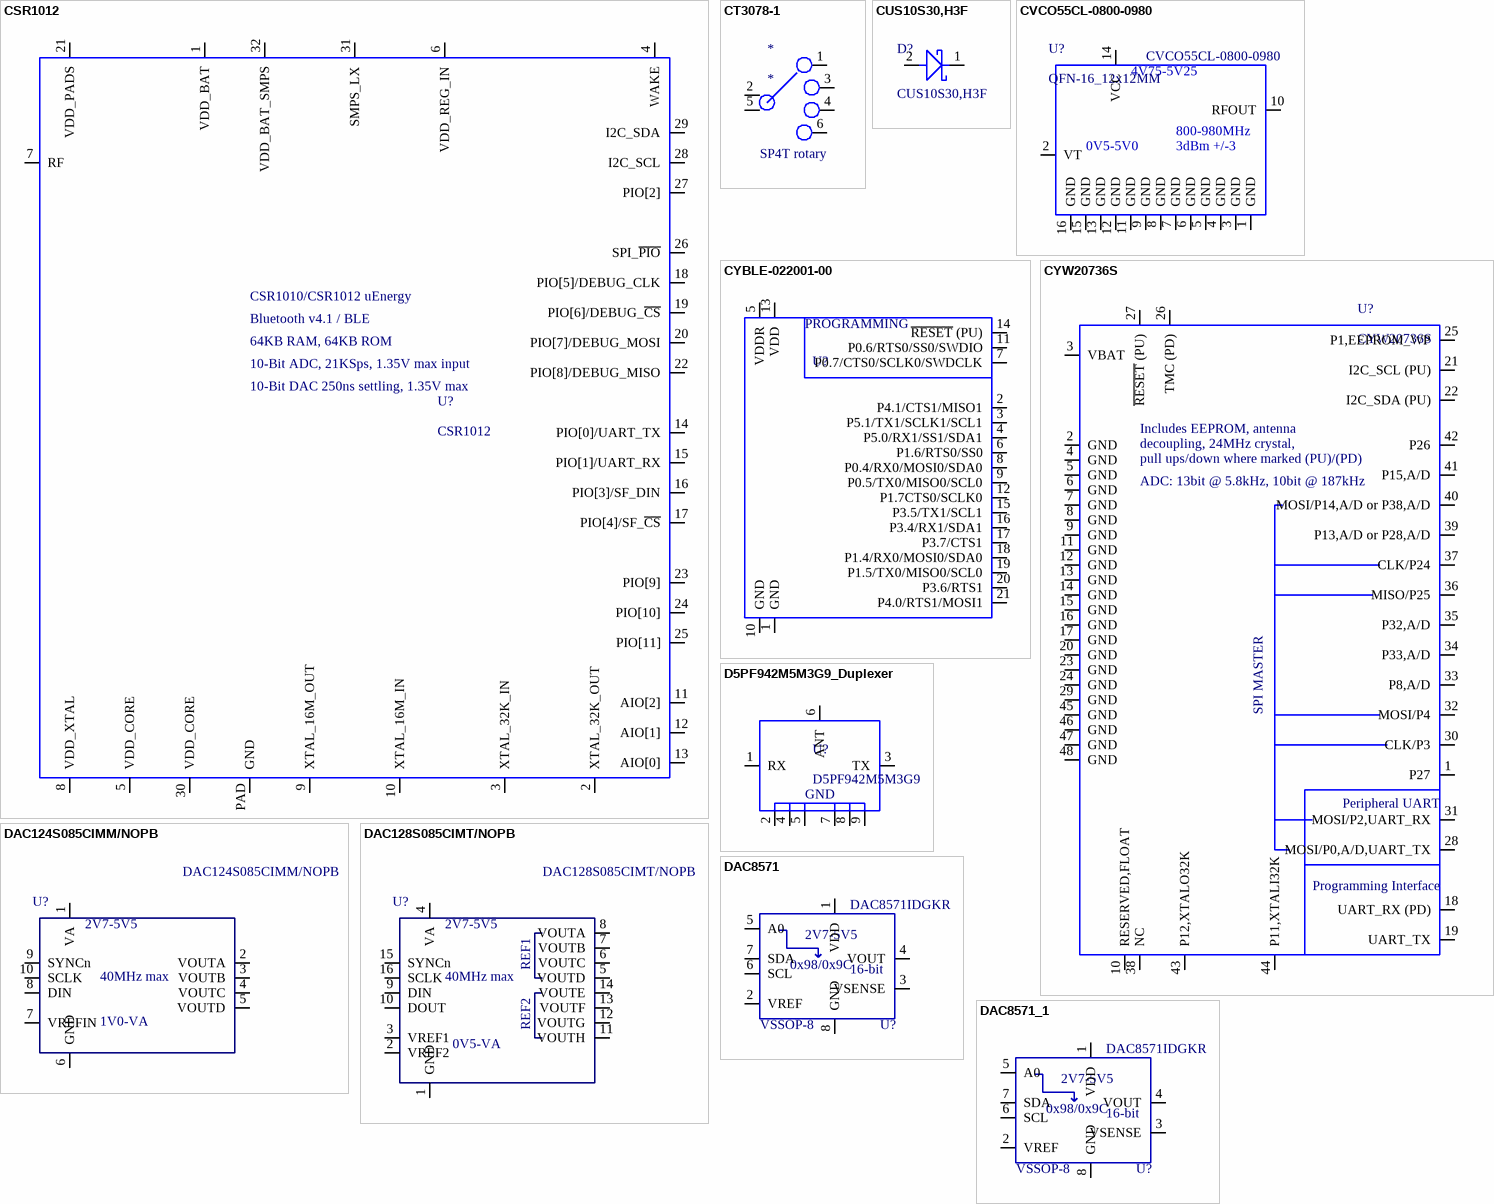
[diagram p6: symbols CSR1012 to DAC8571_1]

## CSR1012
designator U?
BLE + MCU in 4x4mm UFQFN-32 package; Manufacturer: CSR/Qualcomm; MfgPartNumber: CSR1012A05-IQQP-R; DigikeyPartNumber: CSR1012A05-IQQP-RCT-ND
footprint UFQFN-32_PAD (32 pin 4x4mm + powerpad)
pins: 1 VDD_BAT, 2 XTAL_32K_OUT, 3 XTAL_32K_IN, 4 WAKE, 5 VDD_CORE, 6 VDD_REG_IN, 7 RF, 8 VDD_XTAL, 9 XTAL_16M_OUT, 10 XTAL_16M_IN, 11 AIO[2], 12 AIO[1], 13 AIO[0], 14 PIO[0]/UART_TX, 15 PIO[1]/UART_RX, 16 PIO[3]/SF_DIN, 17 PIO[4]/SF_~{CS}, 18 PIO[5]/DEBUG_CLK, 19 PIO[6]/DEBUG_~{CS}, 20 PIO[7]/DEBUG_MOSI, 21 VDD_PADS, 22 PIO[8]/DEBUG_MISO, 23 PIO[9], 24 PIO[10], 25 PIO[11], 26 SPI_~{PIO}, 27 PIO[2], 28 I2C_SCL, 29 I2C_SDA, 30 VDD_CORE, 31 SMPS_LX, 32 VDD_BAT_SMPS, PAD GND
text: CSR1010/CSR1012 uEnergy; Bluetooth v4.1 / BLE; 64KB RAM, 64KB ROM; 10-Bit ADC, 21KSps, 1.35V max input; 10-Bit DAC 250ns settling, 1.35V max

## CT3078-1
designator *
SP4T rotary switch, SMD; Manufacturer: CTS Electrocomponents; MfgPartNumber: 220AMA04R; DigikeyPartNumber: CT3078-1-ND
footprint CTS3078-1
pins: 1, 2, 3, 4, 5, 6
text: SP4T rotary

## CUS10S30,H3F
designator D?
DIODE SCHOTTKY 30V 1A USC; Manufacturer: Toshiba; DigikeyPartNumber: CUS10S30H3FCT-ND; MfgPartNumber: CUS10S30,H3F
footprint SOD-323 (For CSU10S30,H3F schottky diode)
pins: 1, 2

## CVCO55CL-0800-0980
designator U?  MfgPartNumber: CVCO55CL-0800-0980
VCO 890MHZ 0.5-5V 12.7X12.7MM; Manufacturer: Crystek; DigikeyPartNumber: 744-1196-ND
footprint QFN-16_12x12MM (12.7x12.7x4mm VCO)
pins: 1 GND, 2 VT, 3 GND, 4 GND, 5 GND, 6 GND, 7 GND, 8 GND, 9 GND, 10 RFOUT, 11 GND, 12 GND, 13 GND, 14 VCC, 15 GND, 16 GND
text: 4V75-5V25; 800-980MHz; 0V5-5V0; 3dBm +/-3

## CYBLE-022001-00
designator U?, comment BLE module  (value not drawn)
BLE module 10x10x1.8mm; Manufacturer: Cypress; MfgPartNumber: CYBLE-022001-00; DigikeyPartNumber: 428-3408-1-ND
footprint CYBLE-022001-00 (Cypress BLE module 10x10x1.8mm)
pins: 1 GND, 2 P4.1/CTS1/MISO1, 3 P5.1/TX1/SCLK1/SCL1, 4 P5.0/RX1/SS1/SDA1, 5 VDDR, 6 P1.6/RTS0/SS0, 7 P0.7/CTS0/SCLK0/SWDCLK, 8 P0.4/RX0/MOSI0/SDA0, 9 P0.5/TX0/MISO0/SCL0, 10 GND, 11 P0.6/RTS0/SS0/SWDIO, 12 P1.7CTS0/SCLK0, 13 VDD, 14 ~{RESET} (PU), 15 P3.5/TX1/SCL1, 16 P3.4/RX1/SDA1, 17 P3.7/CTS1, 18 P1.4/RX0/MOSI0/SDA0, 19 P1.5/TX0/MISO0/SCL0, 20 P3.6/RTS1, 21 P4.0/RTS1/MOSI1
text: PROGRAMMING

## CYW20736S
designator U?
BLE/MCU system in module. Alias BCM20736S, ISM20736S; Manufacturer: Cypress; MfgPartNumber: CYW20736S; DigikeyPartNumber: 428-3656-ND
footprint LGA-48 (48-pad Land Grid Array for CYW20736S / BCM20736S)
pins: 1 P27, 2 GND, 3 VBAT, 4 GND, 5 GND, 6 GND, 7 GND, 8 GND, 9 GND, 10 RESERVED,FLOAT, 11 GND, 12 GND, 13 GND, 14 GND, 15 GND, 16 GND, 17 GND, 18 UART_RX (PD), 19 UART_TX, 20 GND, 21 I2C_SCL (PU), 22 I2C_SDA (PU), 23 GND, 24 GND, 25 P1,EEPROM_WP, 26 TMC (PD), 27 ~{RESET} (PU), 28 MOSI/P0,A/D,UART_TX, 29 GND, 30 CLK/P3, 31 MOSI/P2,UART_RX, 32 MOSI/P4, 33 P8,A/D, 34 P33,A/D, 35 P32,A/D, 36 MISO/P25, 37 CLK/P24, 38 NC, 39 P13,A/D or P28,A/D, 40 MOSI/P14,A/D or P38,A/D, 41 P15,A/D, 42 P26, 43 P12,XTALO32K, 44 P11,XTALI32K, 45 GND, 46 GND, 47 GND, 48 GND
text: Includes EEPROM, antenna; decoupling, 24MHz crystal,; pull ups/down where marked (PU)/(PD); ADC: 13bit @ 5.8kHz, 10bit @ 187kHz; SPI MASTER; Peripheral UART; Programming Interface

## D5PF942M5M3G9_Duplexer
designator U?, comment D5PF942M5M3G9
9-pin 2.0x1.6 duplexer B8; Manufacturer: Taiyo Yuden; MfgPartNumber: D5PF942M5M3G9
footprint 2.0x1.6MM_9-pin (9-pin package for Taiyo Yuden sawfilter D5PF942M5M3G9-Z)
pins: 1 RX, 2, 3 TX, 4, 5 GND, 6 ANT, 7, 8, 9

## DAC124S085CIMM/NOPB
designator U?  MfgPartNumber: DAC124S085CIMM/NOPB  (hidden comment: *)
12 Bit Digital to Analog Converter 4 10-VSSOP; Manufacturer: Texas Instruments; DigikeyPartNumber: DAC124S085CIMM/NOPBCT-ND
footprint MSOP-10 (3x3mm + leads, 10 pins SMD)
pins: 1 VA, 2 VOUTA, 3 VOUTB, 4 VOUTC, 5 VOUTD, 6 GND, 7 VREFIN, 8 DIN, 9 SYNCn, 10 SCLK
text: 2V7-5V5; 40MHz max; 1V0-VA

## DAC128S085CIMT/NOPB
designator U?  MfgPartNumber: DAC128S085CIMT/NOPB  (hidden comment: *)
12 Bit Digital to Analog Converter 8 16-TSSOP; Manufacturer: Texas Instruments; DigikeyPartNumber: DAC128S085CIMT/NOPB-ND
footprint MSOP-10 (3x3mm + leads, 10 pins SMD)
pins: 1 GND, 2 VREF2, 3 VREF1, 4 VA, 5 VOUTD, 6 VOUTC, 7 VOUTB, 8 VOUTA, 9 DIN, 10 DOUT, 11 VOUTH, 12 VOUTG, 13 VOUTF, 14 VOUTE, 15 SYNCn, 16 SCLK
text: 2V7-5V5; REF1; 40MHz max; REF2; 0V5-VA

## DAC8571
designator U?, comment VSSOP-8  MfgPartNumber: DAC8571IDGKR
IC DAC 16BIT I2C V-OUT LP 8VSSOP; Manufacturer: Texas Instruments; DigikeyPartNumber: 296-14307-1-ND
footprint VSSOP-8 (small outline package)
pins: 1 VDD, 2 VREF, 3 VSENSE, 4 VOUT, 5 A0, 6 SCL, 7 SDA, 8 GND
text: 2V7-5V5; 0x98/0x9C; 16-bit

## DAC8571_1
designator U?, comment VSSOP-8  MfgPartNumber: DAC8571IDGKR
IC DAC 16BIT I2C V-OUT LP 8VSSOP; Manufacturer: Texas Instruments; DigikeyPartNumber: 296-14307-1-ND
footprint VSSOP-8 (small outline package)
pins: 1 VDD, 2 VREF, 3 VSENSE, 4 VOUT, 5 A0, 6 SCL, 7 SDA, 8 GND
text: 2V7-5V5; 0x98/0x9C; 16-bit

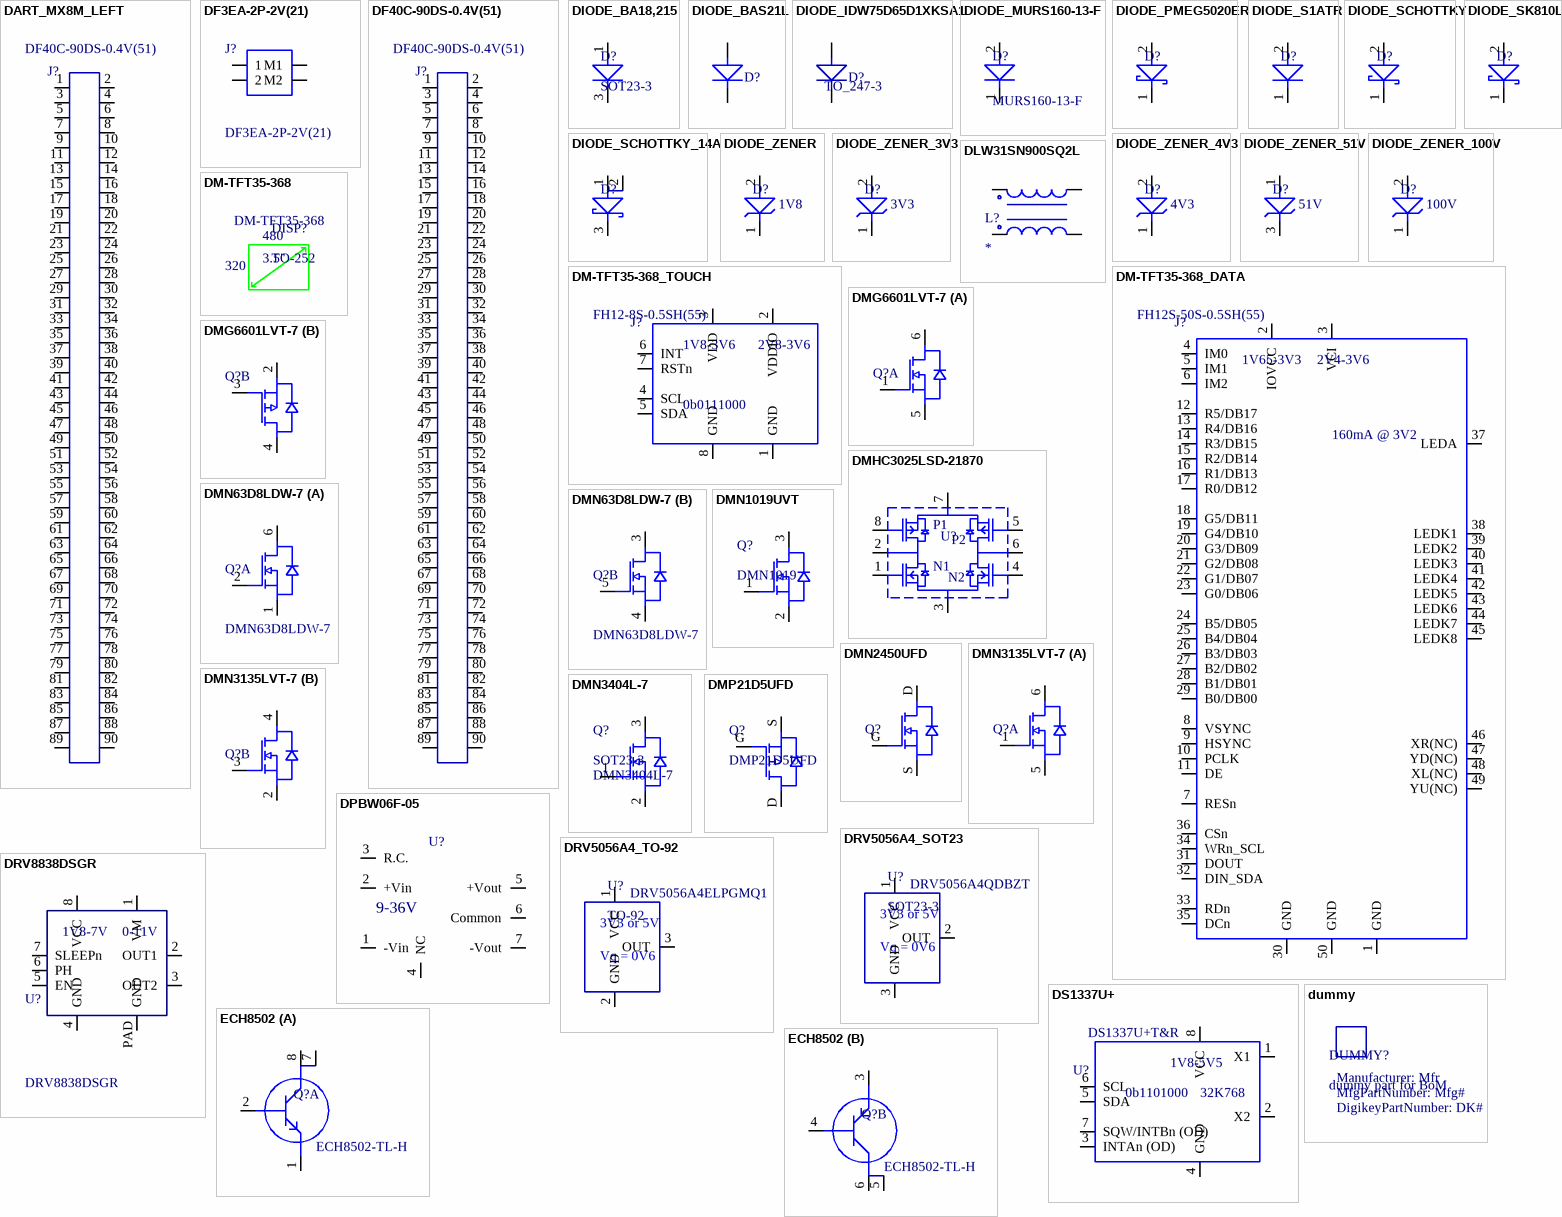
[diagram p7: symbols DART_MX8M_LEFT to ECH8502]

## DART_MX8M_LEFT
designator J?, comment DF40C-90DS-0.4V(51)
90 Position Connector Receptacle, Center Strip Contacts Surface Mount Gold; Manufacturer: Hirose; DigikeyPartNumber: H11877CT-ND; MfgPartNumber: DF40C-90DS-0.4V(51)
footprint DF40C-90DS-0.4V(51) (CONN RCPT 90POS SMD GOLD)
pins: 1, 2, 3, 4, 5, 6, 7, 8, 9, 10, 11, 12, 13, 14, 15, 16, 17, 18, 19, 20, 21, 22, 23, 24, 25, 26, 27, 28, 29, 30, 31, 32, 33, 34, 35, 36, 37, 38, 39, 40, 41, 42, 43, 44, 45, 46, 47, 48, 49, 50, 51, 52, 53, 54, 55, 56, 57, 58, 59, 60, 61, 62, 63, 64, 65, 66, 67, 68, 69, 70, 71, 72, 73, 74, 75, 76, 77, 78, 79, 80, 81, 82, 83, 84, 85, 86, 87, 88, 89, 90

## DF3EA-2P-2V(21)
designator J?  MfgPartNumber: DF3EA-2P-2V(21)
CONN HEADER SMD 2POS 2MM; Manufacturer: Hirose; DigikeyPartNumber: H125461CT-ND
footprint DF3EA-2P-2V(21) (CONN HEADER SMD 2POS 2MM)
pins: 1, 2, M1, M2

## DF40C-90DS-0.4V(51)
designator J?
90 Position Connector Receptacle, Center Strip Contacts Surface Mount Gold; Manufacturer: Hirose; DigikeyPartNumber: H11877CT-ND; MfgPartNumber: DF40C-90DS-0.4V(51)
footprint DF40C-90DS-0.4V(51) (CONN RCPT 90POS SMD GOLD)
pins: 1, 2, 3, 4, 5, 6, 7, 8, 9, 10, 11, 12, 13, 14, 15, 16, 17, 18, 19, 20, 21, 22, 23, 24, 25, 26, 27, 28, 29, 30, 31, 32, 33, 34, 35, 36, 37, 38, 39, 40, 41, 42, 43, 44, 45, 46, 47, 48, 49, 50, 51, 52, 53, 54, 55, 56, 57, 58, 59, 60, 61, 62, 63, 64, 65, 66, 67, 68, 69, 70, 71, 72, 73, 74, 75, 76, 77, 78, 79, 80, 81, 82, 83, 84, 85, 86, 87, 88, 89, 90

## DIODE_BA18,215
designator D?, comment SOT23-3
RF Diode Standard - Single 35V 100mA TO-236AB (SOT23); Manufacturer: NXP USA Inc.; MfgPartNumber: BAT18,215; DigikeyPartNumber: 568-1943-1-ND
footprint SOT23-3
pins: 1 A, 3 C

## DIODE_BAS21L
designator D?, comment SOT23-3  (value not drawn)
Diode Standard 250V 200mA (DC) Surface Mount SOT-23-3 (TO-236); Manufacturer: ON Semiconductor; MfgPartNumber: BAS21LT1G; DigikeyPartNumber: BAS21LT1GOSCT-ND
footprint SOT23-3
pins: 1, 3 hidden, 3

## DIODE_IDW75D65D1XKSA1
designator D?
DIODE GEN PURP 650V 150A TO247-3; Manufacturer: Infineon Technologies; MfgPartNumber: IDW75D65D1XKSA1; DigikeyPartNumber: IDW75D65D1XKSA1-ND
footprint TO_247-3 (large transistor package for IXYS IGBT)
pins: 1, 2, 3

## DIODE_MURS160-13-F
designator D?, comment MfgPartNumber: MURS160-13-F  (hidden comment: DO-214AC)
DIODE GEN PURP 600V 1A SMB; Manufacturer: Diodes Incorporated; DigikeyPartNumber: MURS160-FDICT-ND
footprint DO-214AC (For S1ATR diode)
footprint DO-214AA (For MURS160 diode)
pins: 1, 2

## DIODE_PMEG5020ER
designator D?, comment SOD-123W  (value not drawn)
DIODE SCHOTTKY 60V 2A SOD123W; Manufacturer: Nexperia; MfgPartNumber: PMEG6020ER,115; DigikeyPartNumber: 1727-5217-1-ND
footprint SOD-123W (Footprint not found)
pins: 1, 2

## DIODE_S1ATR
designator D?, comment DO-214AC  (value not drawn)
Diode Standard 50V 1A Surface Mount SMA (DO-214AC); Manufacturer: SMC Diode Solutions; MfgPartNumber: S1ATR; DigikeyPartNumber: 1655-1502-1-ND
footprint DO-214AC (For S1ATR diode)
pins: 1, 2

## DIODE_SCHOTTKY
designator D?, comment Schottky Diode - look up part number  (value not drawn)
footprint SOD-123 (for Zener diodes)
pins: 1, 2

## DIODE_SCHOTTKY_14A
designator D?, comment Schottky Diode  (value not drawn)
Diode Schottky 45V 14A (DC) Surface Mount CFP15; Manufacturer: Nexperia; MfgPartNumber: PMEG045T100EPDAZ; DigikeyPartNumber: 1727-7495-1-ND
footprint TO-277 (3-pin packag for schottky diode)
pins: 1, 2, 3

## DIODE_SK810L
designator D?, comment SOD-123W  (value not drawn)
DIODE SCHOTTKY 60V 2A SOD123W; Manufacturer: Micro Commercial Co; MfgPartNumber: SK810L-TP; DigikeyPartNumber: SK810L-TPMSCT-ND
footprint DO-214AB (For SK810L diode)
pins: 1, 2

## DIODE_ZENER
designator D?, comment ZenerVoltage: 1V8  (hidden comment: Zener Diode)
Zener Diode 500mW ±5% Surface Mount SOD-123; Manufacturer: ON Semiconductor; MfgPartNumber: MMSZ4678T1G; DigikeyPartNumber: MMSZ4678T1GOSCT-ND
footprint SOD-123 (for Zener diodes)
pins: 1, 2